# Altium schematic symbol library Part3411EN.SchLib: 650 symbols
Pins are listed as number, name and electrical type; pins without a type are passive.

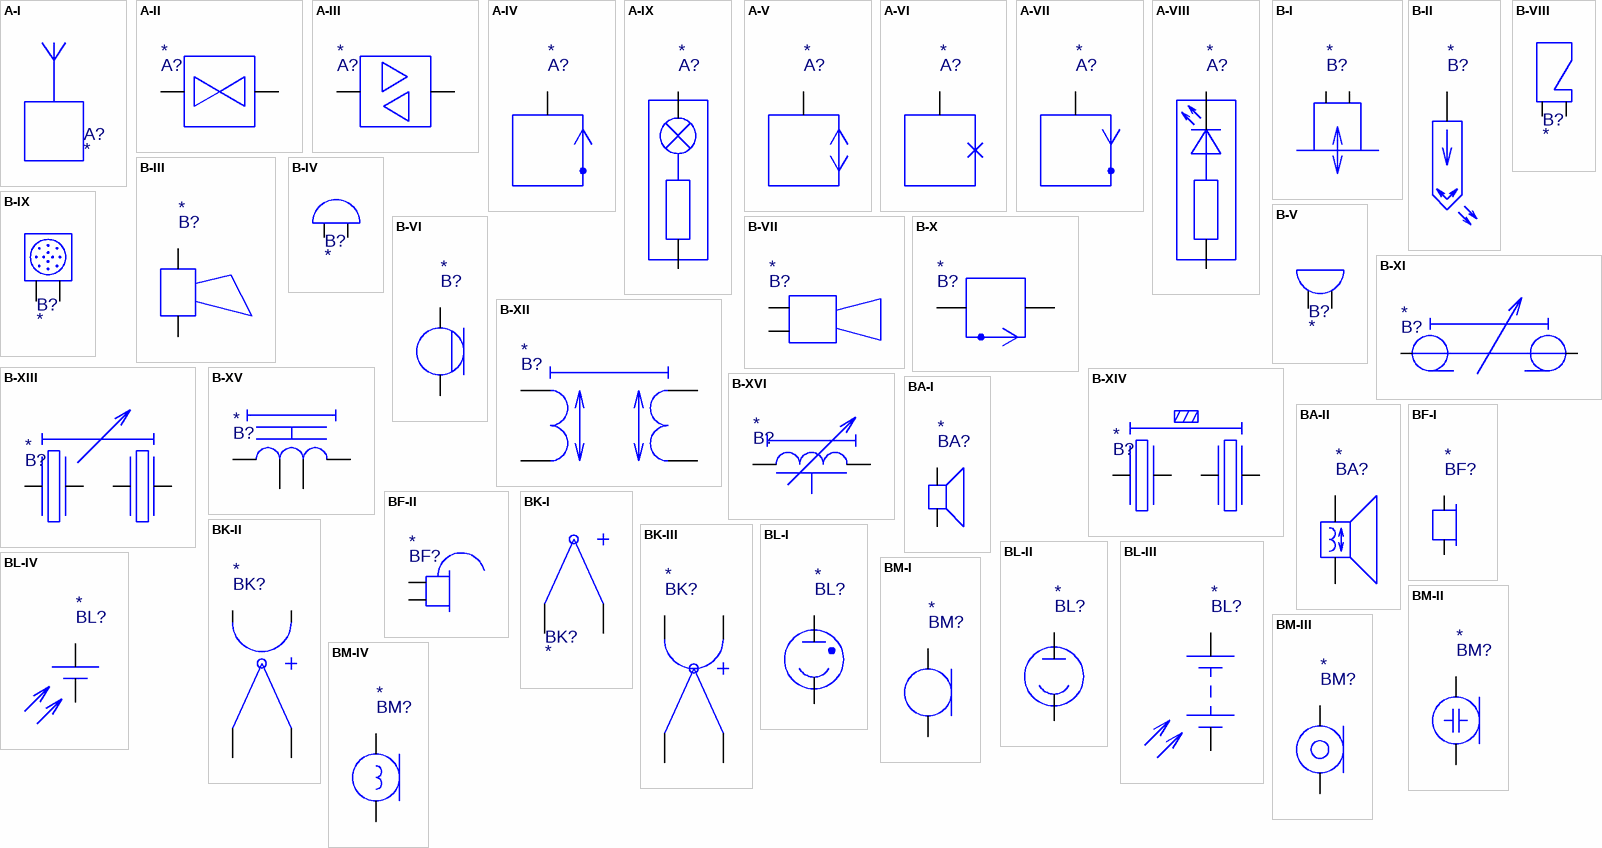
[diagram p0: symbols A-I to BM-IV]

## A-I
designator A?
pins: 1

## A-II
designator A?
pins: 1, 2

## A-III
designator A?
pins: 1, 2

## A-IV
designator A?
pins: 1

## A-IX
designator A?
pins: 1, 2

## A-V
designator A?
pins: 1

## A-VI
designator A?
pins: 1

## A-VII
designator A?
pins: 1

## A-VIII
designator A?
pins: 1, 2

## B-I
designator B?
pins: 1, 2

## B-II
designator B?
pins: 1

## B-III
designator B?
pins: 1, 2

## B-IV
designator B?
pins: 1, 2

## B-IX
designator B?
pins: 1, 2

## B-V
designator B?
pins: 1, 2

## B-VI
designator B?
pins: 1, 2

## B-VII
designator B?
pins: 1, 2

## B-VIII
designator B?
pins: 1, 2

## B-X
designator B?
pins: 1, 2

## B-XI
designator B?
pins: 1, 2

## B-XII
designator B?
pins: 1, 2, 3, 4

## B-XIII
designator B?
pins: 1, 2, 3, 4

## B-XIV
designator B?
pins: 1, 2, 3, 4

## B-XV
designator B?
pins: 1, 2, 3, 4

## B-XVI
designator B?
pins: 1, 2

## BA-I
designator BA?
pins: 1, 2

## BA-II
designator BA?
pins: 1, 2

## BF-I
designator BF?
pins: 1, 2

## BF-II
designator BF?
pins: 1, 2

## BK-I
designator BK?
pins: 1, 2

## BK-II
designator BK?
pins: 1, 2, 3, 4

## BK-III
designator BK?
pins: 1, 2, 3, 4

## BL-I
designator BL?
pins: 1, 2

## BL-II
designator BL?
pins: 1, 2

## BL-III
designator BL?
pins: 1, 2

## BL-IV
designator BL?
pins: 1, 2

## BM-I
designator BM?
pins: 1, 2

## BM-II
designator BM?
pins: 1, 2

## BM-III
designator BM?
pins: 1, 2

## BM-IV
designator BM?
pins: 1, 2

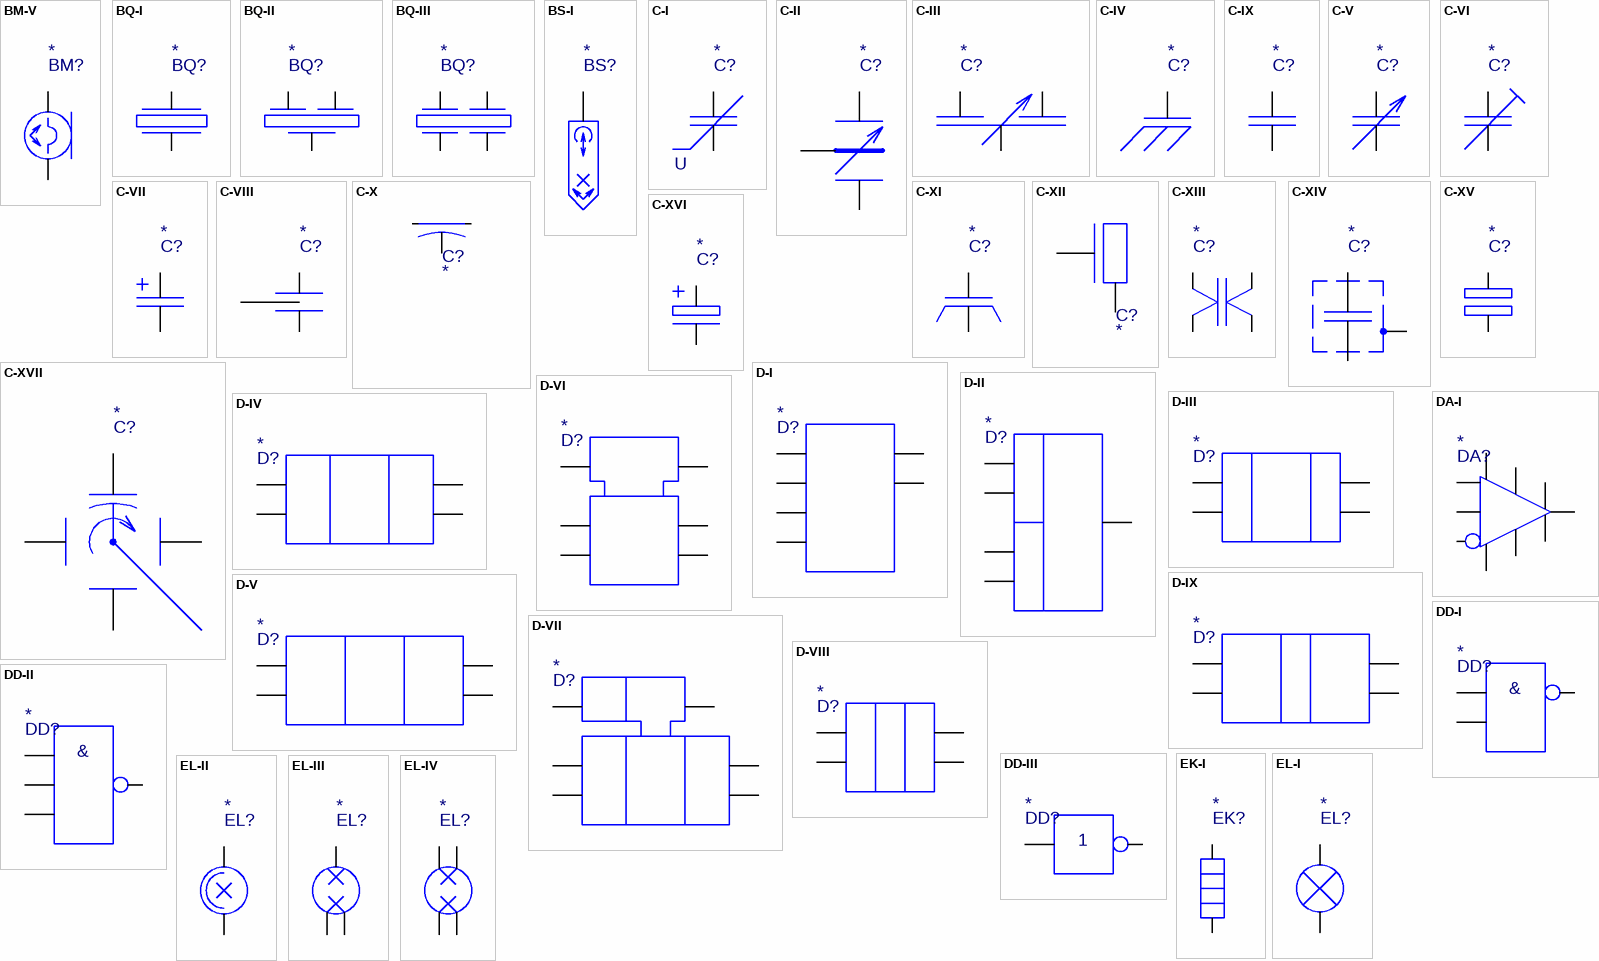
[diagram p1: symbols BM-V to EL-IV]

## BM-V
designator BM?
pins: 1, 2

## BQ-I
designator BQ?
pins: 1, 2

## BQ-II
designator BQ?
pins: 1, 2, 3

## BQ-III
designator BQ?
pins: 1, 2, 3, 4

## BS-I
designator BS?
pins: 1

## C-I
designator C?
pins: 1, 2
text: U

## C-II
designator C?
pins: 1, 2, 3

## C-III
designator C?
pins: 1, 2, 3

## C-IV
designator C?
pins: 1

## C-IX
designator C?
pins: 1, 2

## C-V
designator C?
pins: 1, 2

## C-VI
designator C?
pins: 1, 2

## C-VII
designator C?
pins: 1, 2

## C-VIII
designator C?
pins: 1, 2, 3

## C-X
designator C?
pins: 1, 2, 3

## C-XI
designator C?
pins: 1, 2

## C-XII
designator C?
pins: 1, 2

## C-XIII
designator C?
pins: 1, 2, 3, 4

## C-XIV
designator C?
pins: 1, 2, 3

## C-XV
designator C?
pins: 1, 2

## C-XVI
designator C?
pins: 1, 2

## C-XVII
designator C?
pins: 1, 2, 3, 4, 5

## D-I
designator D?
pins: 1, 2, 3, 4, 5, 6

## D-II
designator D?
pins: 1, 2, 3, 4, 5

## D-III
designator D?
pins: 1, 2, 3, 4

## D-IV
designator D?
pins: 1, 2, 3, 4

## D-IX
designator D?
pins: 1, 2, 3, 4

## D-V
designator D?
pins: 1, 2, 3, 4

## D-VI
designator D?
pins: 1, 2, 3, 4, 5, 6

## D-VII
designator D?
pins: 1, 2, 3, 4, 5, 6

## D-VIII
designator D?
pins: 1, 2, 3, 4

## DA-I
designator DA?
pins: 1, 2, 3, 4, 5, 6, 7, 8, 9, 10

## DD-I
designator DD?
pins: 1, 2, 3
text: &

## DD-II
designator DD?
pins: 1, 2, 3, 4
text: &

## DD-III
designator DD?
pins: 1, 2

## EK-I
designator EK?
pins: 1, 2

## EL-I
designator EL?
pins: 1, 2

## EL-II
designator EL?
pins: 1, 2

## EL-III
designator EL?
pins: 1, 2, 3

## EL-IV
designator EL?
pins: 1, 2, 3, 4

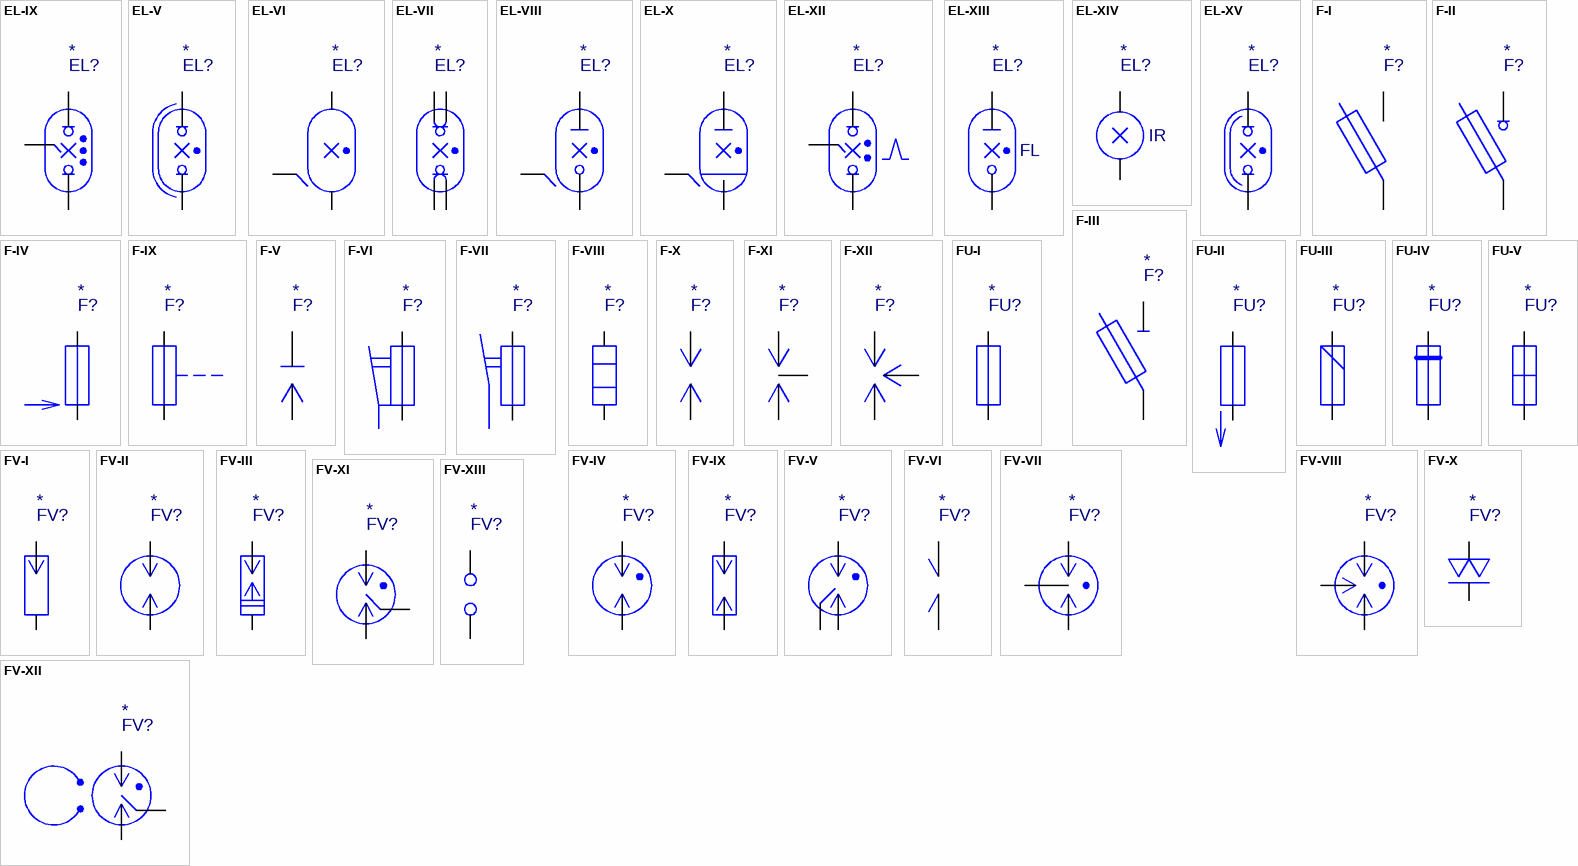
[diagram p2: symbols EL-IX to FV-XIII]

## EL-IX
designator EL?
pins: 1, 2, 3

## EL-V
designator EL?
pins: 1, 2

## EL-VI
designator EL?
pins: 1, 2, 3

## EL-VII
designator EL?
pins: 1, 2, 3, 4

## EL-VIII
designator EL?
pins: 1, 2, 3

## EL-X
designator EL?
pins: 1, 2, 3

## EL-XII
designator EL?
pins: 1, 2, 3

## EL-XIII
designator EL?
pins: 1, 2
text: FL

## EL-XIV
designator EL?
pins: 1, 2
text: IR

## EL-XV
designator EL?
pins: 1, 2

## F-I
designator F?
pins: 1, 2

## F-II
designator F?
pins: 1, 2

## F-III
designator F?
pins: 1, 2

## F-IV
designator F?
pins: 1, 2

## F-IX
designator F?
pins: 1, 2

## F-V
designator F?
pins: 1, 2

## F-VI
designator F?
pins: 1, 2

## F-VII
designator F?
pins: 1, 2

## F-VIII
designator F?
pins: 1, 2

## F-X
designator F?
pins: 1, 2

## F-XI
designator F?
pins: 1, 2, 3

## F-XII
designator F?
pins: 1, 2, 3

## FU-I
designator FU?
pins: 1, 2

## FU-II
designator FU?
pins: 1, 2

## FU-III
designator FU?
pins: 1, 2

## FU-IV
designator FU?
pins: 1, 2

## FU-V
designator FU?
pins: 1, 2

## FV-I
designator FV?
pins: 1, 2

## FV-II
designator FV?
pins: 1, 2

## FV-III
designator FV?
pins: 1, 2

## FV-IV
designator FV?
pins: 1, 2

## FV-IX
designator FV?
pins: 1, 2

## FV-V
designator FV?
pins: 1, 2, 3

## FV-VI
designator FV?
pins: 1, 2

## FV-VII
designator FV?
pins: 1, 2, 3

## FV-VIII
designator FV?
pins: 1, 2, 3

## FV-X
designator FV?
pins: 1, 2

## FV-XI
designator FV?
pins: 1, 2, 3

## FV-XII
designator FV?
pins: 1, 2, 3

## FV-XIII
designator FV?
pins: 1, 2

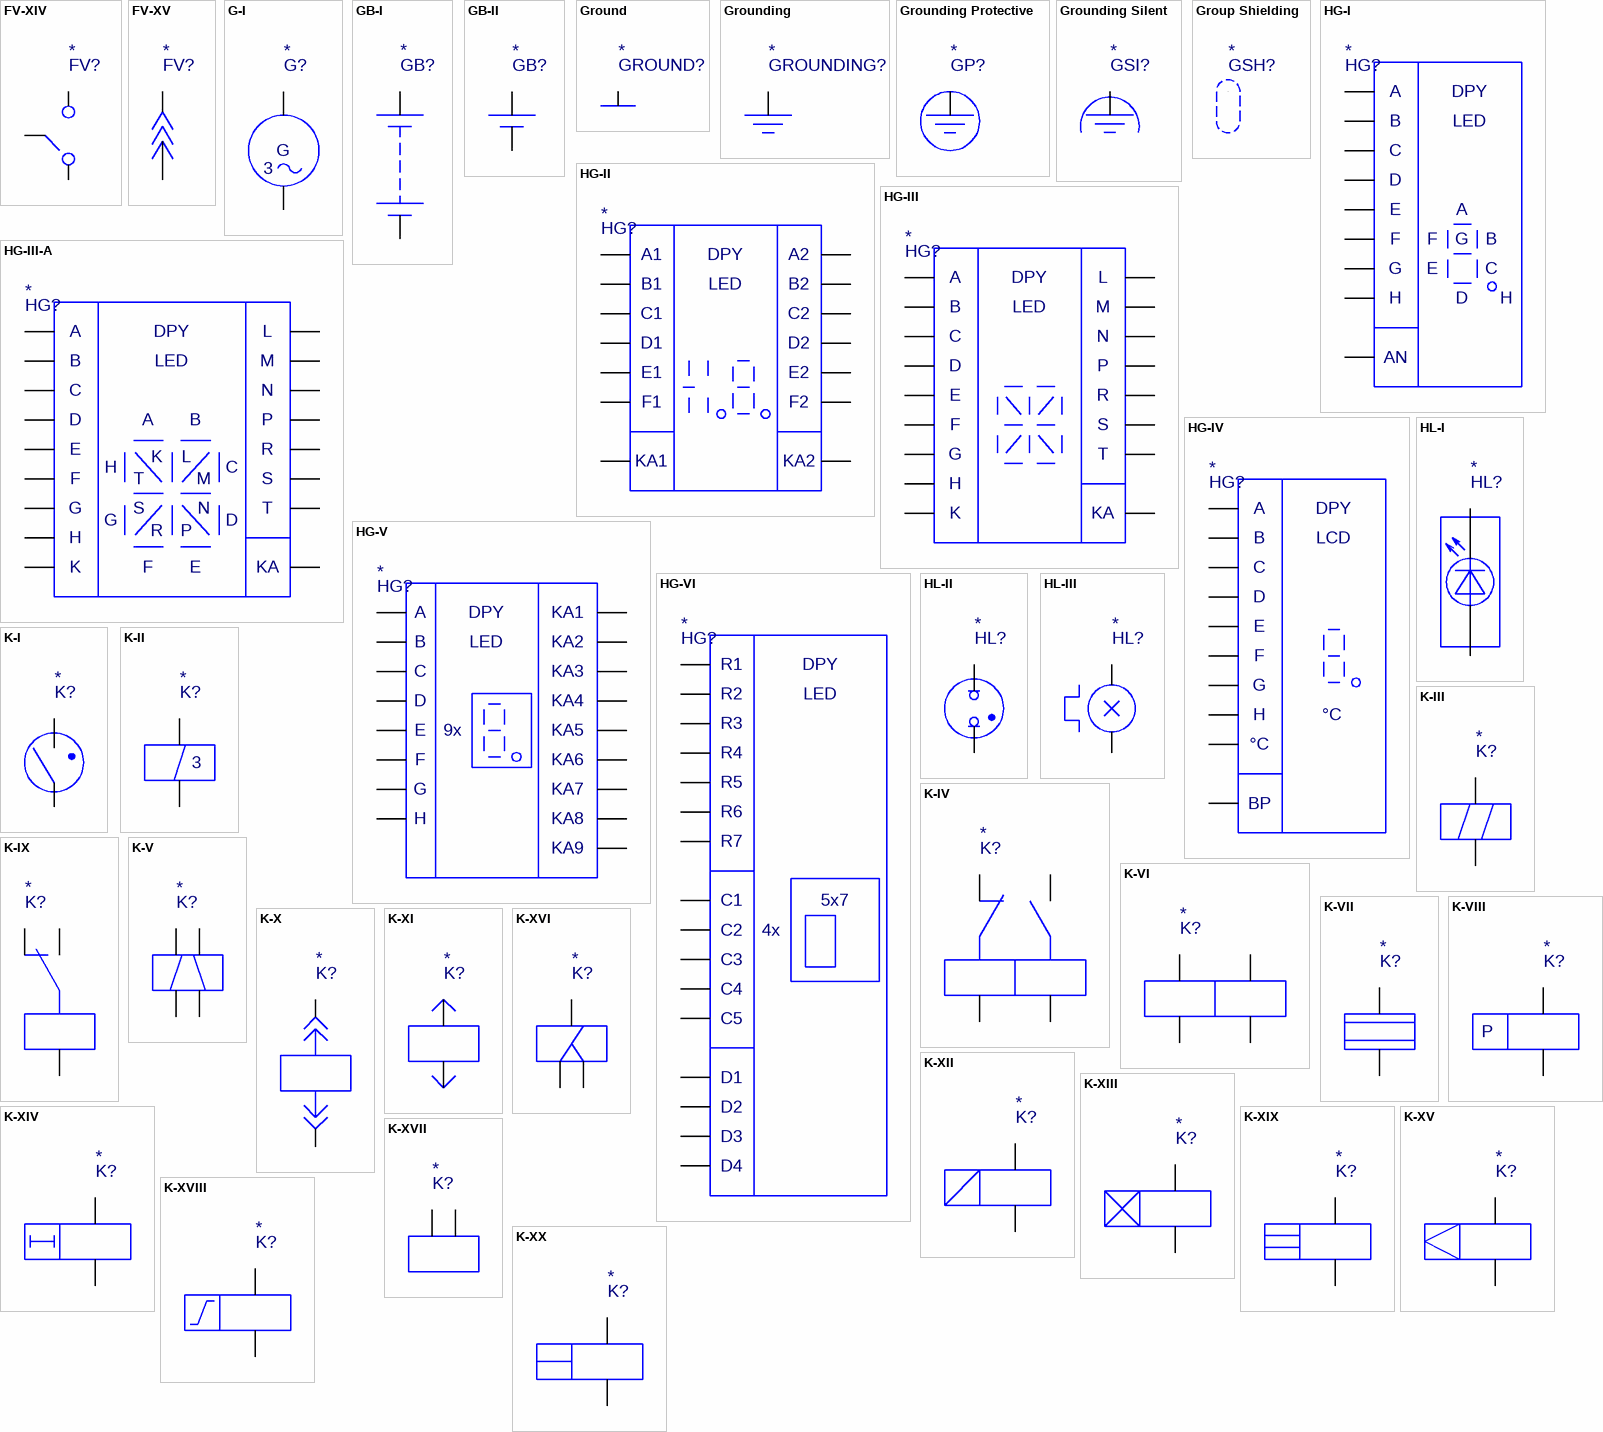
[diagram p3: symbols FV-XIV to K-XX]

## FV-XIV
designator FV?
pins: 1, 2, 3

## FV-XV
designator FV?
pins: 1, 2

## G-I
designator G?
pins: 1, 2
text: G; 3

## GB-I
designator GB?
pins: 1, 2

## GB-II
designator GB?
pins: 1, 2

## Ground
designator GROUND?
pins: 1

## Grounding
designator GROUNDING?
pins: 1

## Grounding Protective
designator GP?
pins: 1

## Grounding Silent
designator GSI?
pins: 1

## Group Shielding
designator GSH?
pins: 1

## HG-I
designator HG?
pins: 1, 2, 3, 4, 5, 6, 7, 8, 9
text: A; DPY; B; LED; C; D; E; F; G; H; AN

## HG-II
designator HG?
pins: 1, 2, 3, 4, 5, 6, 7, 8, 9, 10, 11, 12, 13, 14
text: A1; DPY; A2; B1; LED; B2; C1; C2; D1; D2; E1; E2; F1; F2; KA1; KA2

## HG-III
designator HG?
pins: 1, 2, 3, 4, 5, 6, 7, 8, 9, 10, 11, 12, 13, 14, 15, 16, 17
text: A; DPY; L; B; LED; M; C; N; D; P; E; R; F; S; G; T; H; K; KA

## HG-III-A
designator HG?
pins: 1, 2, 3, 4, 5, 6, 7, 8, 9, 10, 11, 12, 13, 14, 15, 16, 17
text: A; DPY; L; B; LED; M; C; N; D; P; E; R; K; H; F; T; S; G; KA

## HG-IV
designator HG?
pins: 1, 2, 3, 4, 5, 6, 7, 8, 9, 10
text: A; DPY; B; LCD; C; D; E; F; G; H; °C; BP

## HG-V
designator HG?
pins: 1, 2, 3, 4, 5, 6, 7, 8, 9, 10, 11, 12, 13, 14, 15, 16, 17
text: A; DPY; KA1; B; LED; KA2; C; KA3; D; KA4; E; 9x; KA5; F; KA6; G; KA7; H; KA8; KA9

## HG-VI
designator HG?
pins: 1, 2, 3, 4, 5, 6, 7, 8, 9, 10, 11, 12, 13, 14, 15, 16
text: R1; DPY; R2; LED; R3; R4; R5; R6; R7; C1; 5x7; C2; 4x; C3; C4; C5; D1; D2; D3; D4

## HL-I
designator HL?
pins: 1, 2

## HL-II
designator HL?
pins: 1, 2

## HL-III
designator HL?
pins: 1, 2

## K-I
designator K?
pins: 1, 2

## K-II
designator K?
pins: 1, 2
text: 3

## K-III
designator K?
pins: 1, 2

## K-IV
designator K?
pins: 1, 2, 3, 4

## K-IX
designator K?
pins: 1, 2, 3

## K-V
designator K?
pins: 1, 2, 3, 4

## K-VI
designator K?
pins: 1, 2, 3, 4

## K-VII
designator K?
pins: 1, 2

## K-VIII
designator K?
pins: 1, 2
text: P

## K-X
designator K?
pins: 1, 2

## K-XI
designator K?
pins: 1, 2

## K-XII
designator K?
pins: 1, 2

## K-XIII
designator K?
pins: 1, 2

## K-XIV
designator K?
pins: 1, 2

## K-XIX
designator K?
pins: 1, 2

## K-XV
designator K?
pins: 1, 2

## K-XVI
designator K?
pins: 1, 2, 3

## K-XVII
designator K?
pins: 1, 2

## K-XVIII
designator K?
pins: 1, 2

## K-XX
designator K?
pins: 1, 2

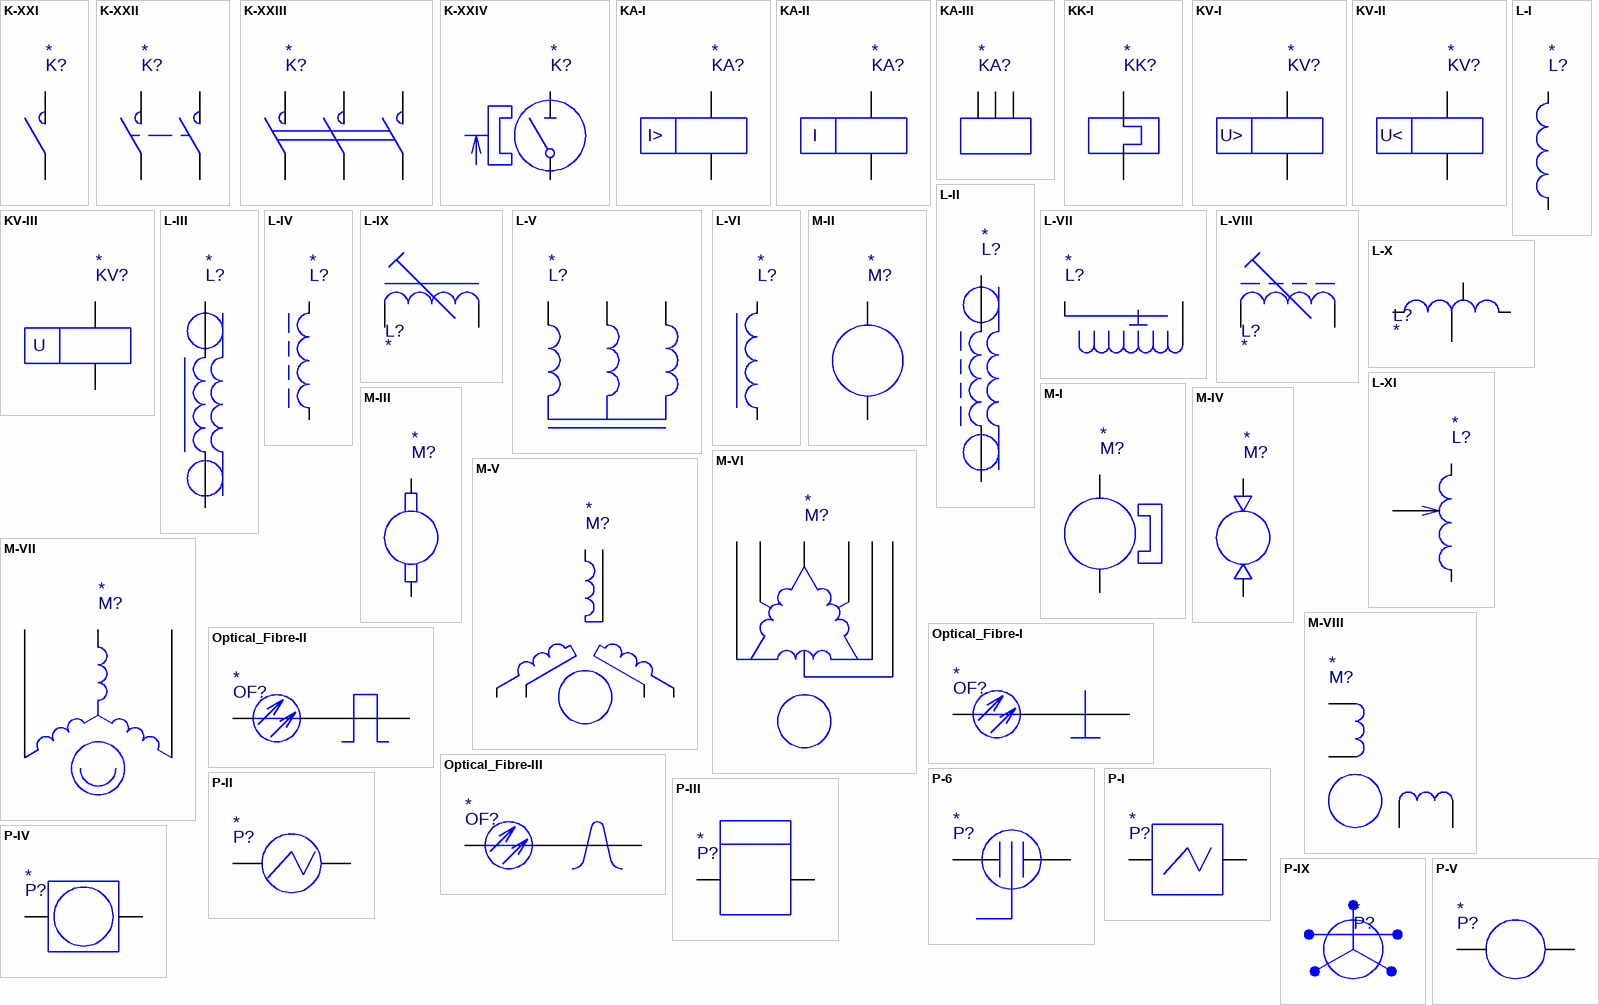
[diagram p4: symbols K-XXI to P-V]

## K-XXI
designator K?
pins: 1, 2

## K-XXII
designator K?
pins: 1, 2, 3, 4

## K-XXIII
designator K?
pins: 1, 2, 3, 4, 5, 6

## K-XXIV
designator K?
pins: 1, 2

## KA-I
designator KA?
pins: 1, 2
text: I>

## KA-II
designator KA?
pins: 1, 2
text: I

## KA-III
designator KA?
pins: 1, 2, 3

## KK-I
designator KK?
pins: 1, 2

## KV-I
designator KV?
pins: 1, 2
text: U>

## KV-II
designator KV?
pins: 1, 2
text: U<

## KV-III
designator KV?
pins: 1, 2
text: U

## L-I
designator L?
pins: 1, 2

## L-II
designator L?
pins: 1, 2

## L-III
designator L?
pins: 1, 2

## L-IV
designator L?
pins: 1, 2

## L-IX
designator L?
pins: 1, 2

## L-V
designator L?
pins: 1, 2, 3

## L-VI
designator L?
pins: 1, 2

## L-VII
designator L?
pins: 1, 2

## L-VIII
designator L?
pins: 1, 2

## L-X
designator L?
pins: 1, 2, 3, 4

## L-XI
designator L?
pins: 1, 2, 3

## M-I
designator M?
pins: 1, 2

## M-II
designator M?
pins: 1, 2

## M-III
designator M?
pins: 1, 2

## M-IV
designator M?
pins: 1, 2

## M-V
designator M?
pins: 1, 2, 3, 4, 5, 6

## M-VI
designator M?
pins: 1, 2, 3, 4, 5, 6

## M-VII
designator M?
pins: 1, 2, 3

## M-VIII
designator M?
pins: 1, 2, 3, 4

## Optical_Fibre-I
designator OF?
pins: 1, 2

## Optical_Fibre-II
designator OF?
pins: 1, 2

## Optical_Fibre-III
designator OF?
pins: 1, 2

## P-6
designator P?
pins: 1, 2

## P-I
designator P?
pins: 1, 2

## P-II
designator P?
pins: 1, 2

## P-III
designator P?
pins: 1, 2

## P-IV
designator P?
pins: 1, 2

## P-IX
designator P?
pins: 1

## P-V
designator P?
pins: 1, 2

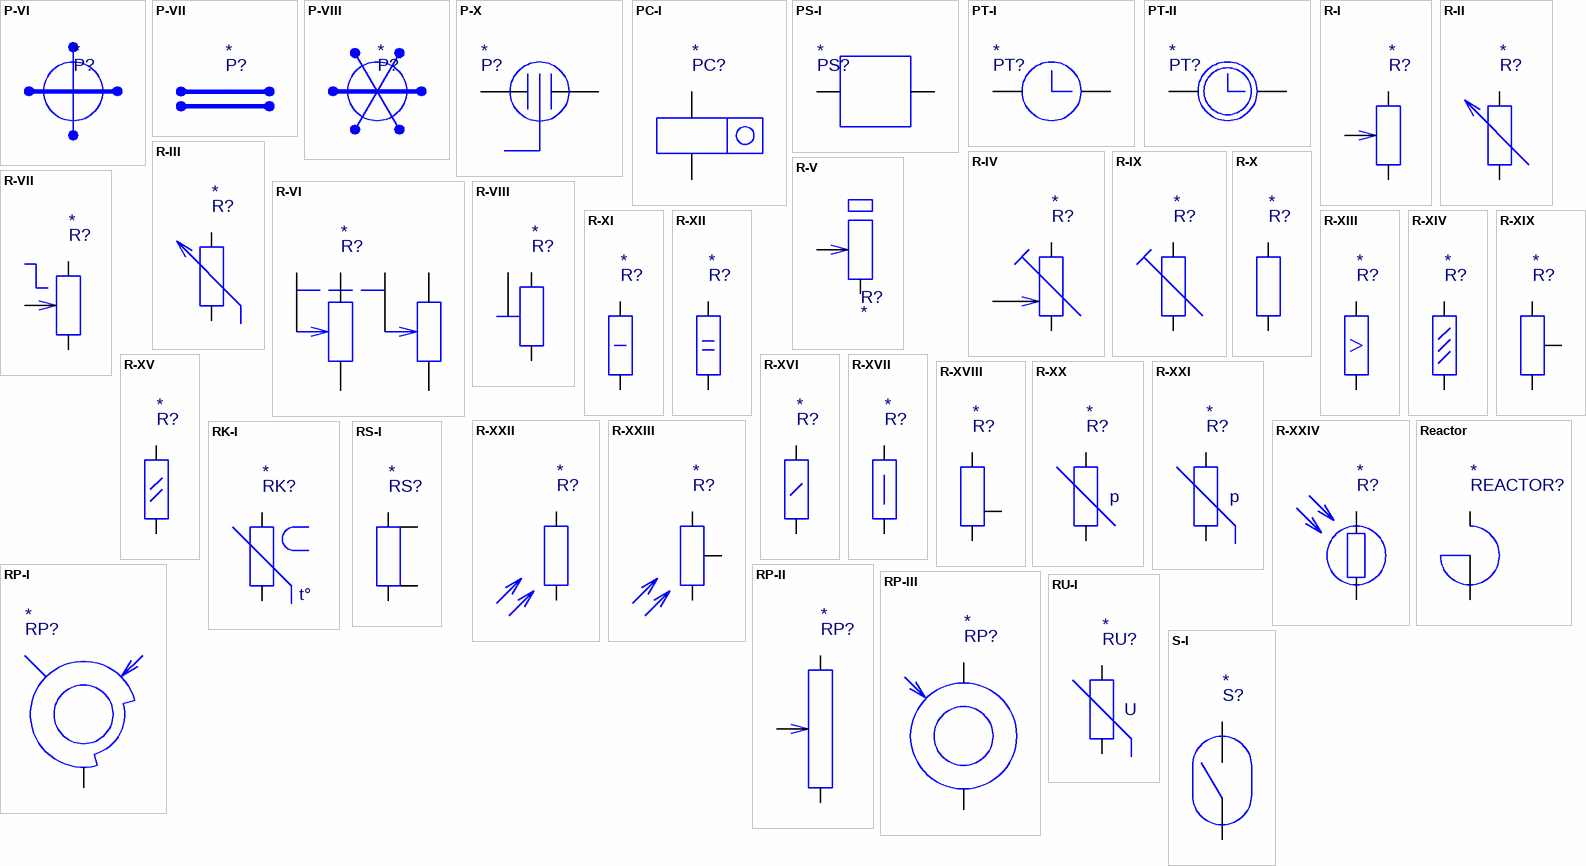
[diagram p5: symbols P-VI to S-I]

## P-VI
designator P?
pins: 1

## P-VII
designator P?
pins: 1

## P-VIII
designator P?
pins: 1

## P-X
designator P?
pins: 1, 2

## PC-I
designator PC?
pins: 1, 2

## PS-I
designator PS?
pins: 1, 2

## PT-I
designator PT?
pins: 1, 2

## PT-II
designator PT?
pins: 1, 2

## R-I
designator R?
pins: 1, 2, 3

## R-II
designator R?
pins: 1, 2

## R-III
designator R?
pins: 1, 2

## R-IV
designator R?
pins: 1, 2, 3

## R-IX
designator R?
pins: 1, 2

## R-V
designator R?
pins: 1, 2

## R-VI
designator R?
pins: 1, 2, 3, 4, 5, 6

## R-VII
designator R?
pins: 1, 2, 3

## R-VIII
designator R?
pins: 1, 2, 3

## R-X
designator R?
pins: 1, 2

## R-XI
designator R?
pins: 1, 2

## R-XII
designator R?
pins: 1, 2

## R-XIII
designator R?
pins: 1, 2

## R-XIV
designator R?
pins: 1, 2

## R-XIX
designator R?
pins: 1, 2, 3

## R-XV
designator R?
pins: 1, 2

## R-XVI
designator R?
pins: 1, 2

## R-XVII
designator R?
pins: 1, 2

## R-XVIII
designator R?
pins: 1, 2, 3

## R-XX
designator R?
pins: 1, 2
text: p

## R-XXI
designator R?
pins: 1, 2
text: p

## R-XXII
designator R?
pins: 1, 2

## R-XXIII
designator R?
pins: 1, 2, 3

## R-XXIV
designator R?
pins: 1, 2

## Reactor
designator REACTOR?
pins: 1, 2

## RK-I
designator RK?
pins: 1, 2
text: t°

## RP-I
designator RP?
pins: 1, 2, 3

## RP-II
designator RP?
pins: 1, 2, 3

## RP-III
designator RP?
pins: 1, 2, 3

## RS-I
designator RS?
pins: 1, 2, 3, 4

## RU-I
designator RU?
pins: 1, 2
text: U

## S-I
designator S?
pins: 1, 2

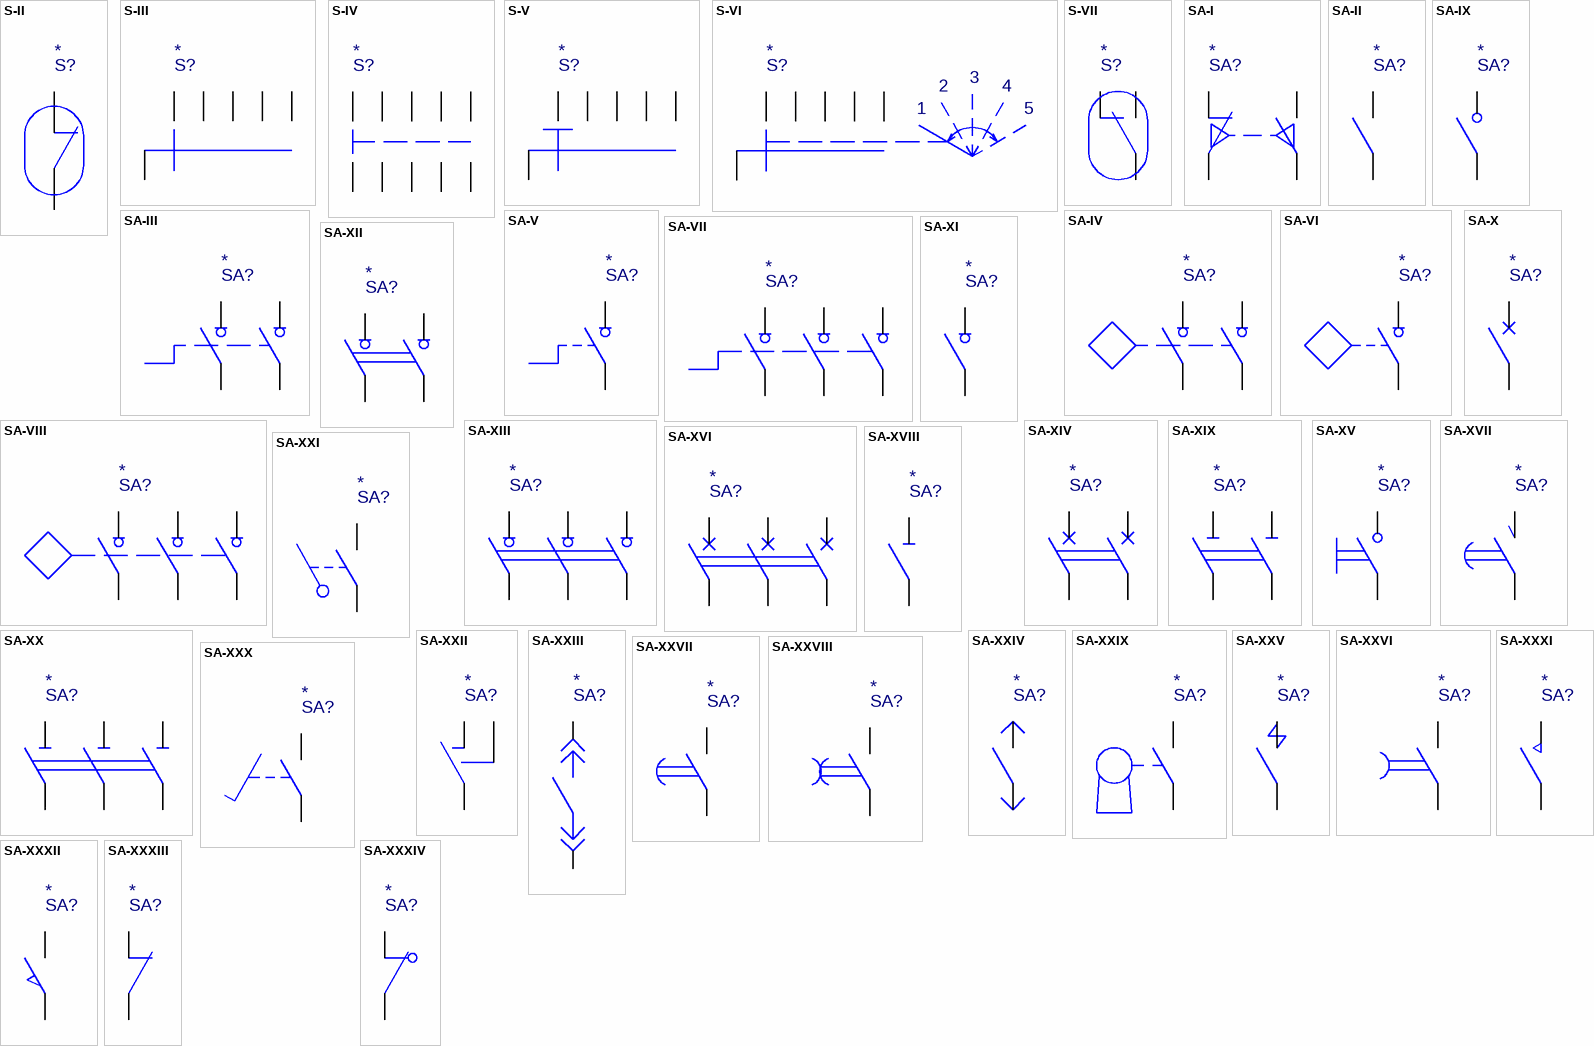
[diagram p6: symbols S-II to SA-XXXIV]

## S-II
designator S?
pins: 1, 2

## S-III
designator S?
pins: 1, 2, 3, 4, 5, 6

## S-IV
designator S?
pins: 1, 2, 3, 4, 5, 6, 7, 8, 9, 10

## S-V
designator S?
pins: 1, 2, 3, 4, 5, 6

## S-VI
designator S?
pins: 1, 2, 3, 4, 5, 6

## S-VII
designator S?
pins: 1, 2, 3

## SA-I
designator SA?
pins: 1, 2, 3, 4

## SA-II
designator SA?
pins: 1, 2

## SA-III
designator SA?
pins: 1, 2, 3, 4

## SA-IV
designator SA?
pins: 1, 2, 3, 4

## SA-IX
designator SA?
pins: 1, 2

## SA-V
designator SA?
pins: 1, 2

## SA-VI
designator SA?
pins: 1, 2

## SA-VII
designator SA?
pins: 1, 2, 3, 4, 5, 6

## SA-VIII
designator SA?
pins: 1, 2, 3, 4, 5, 6

## SA-X
designator SA?
pins: 1, 2

## SA-XI
designator SA?
pins: 1, 2

## SA-XII
designator SA?
pins: 1, 2, 3, 4

## SA-XIII
designator SA?
pins: 1, 2, 3, 4, 5, 6

## SA-XIV
designator SA?
pins: 1, 2, 3, 4

## SA-XIX
designator SA?
pins: 1, 2, 3, 4

## SA-XV
designator SA?
pins: 1, 2

## SA-XVI
designator SA?
pins: 1, 2, 3, 4, 5, 6

## SA-XVII
designator SA?
pins: 1, 2

## SA-XVIII
designator SA?
pins: 1, 2

## SA-XX
designator SA?
pins: 1, 2, 3, 4, 5, 6

## SA-XXI
designator SA?
pins: 1, 2

## SA-XXII
designator SA?
pins: 1, 2, 3

## SA-XXIII
designator SA?
pins: 1, 2

## SA-XXIV
designator SA?
pins: 1, 2

## SA-XXIX
designator SA?
pins: 1, 2

## SA-XXV
designator SA?
pins: 1, 2

## SA-XXVI
designator SA?
pins: 1, 2

## SA-XXVII
designator SA?
pins: 1, 2

## SA-XXVIII
designator SA?
pins: 1, 2

## SA-XXX
designator SA?
pins: 1, 2

## SA-XXXI
designator SA?
pins: 1, 2

## SA-XXXII
designator SA?
pins: 1, 2

## SA-XXXIII
designator SA?
pins: 1, 2

## SA-XXXIV
designator SA?
pins: 1, 2

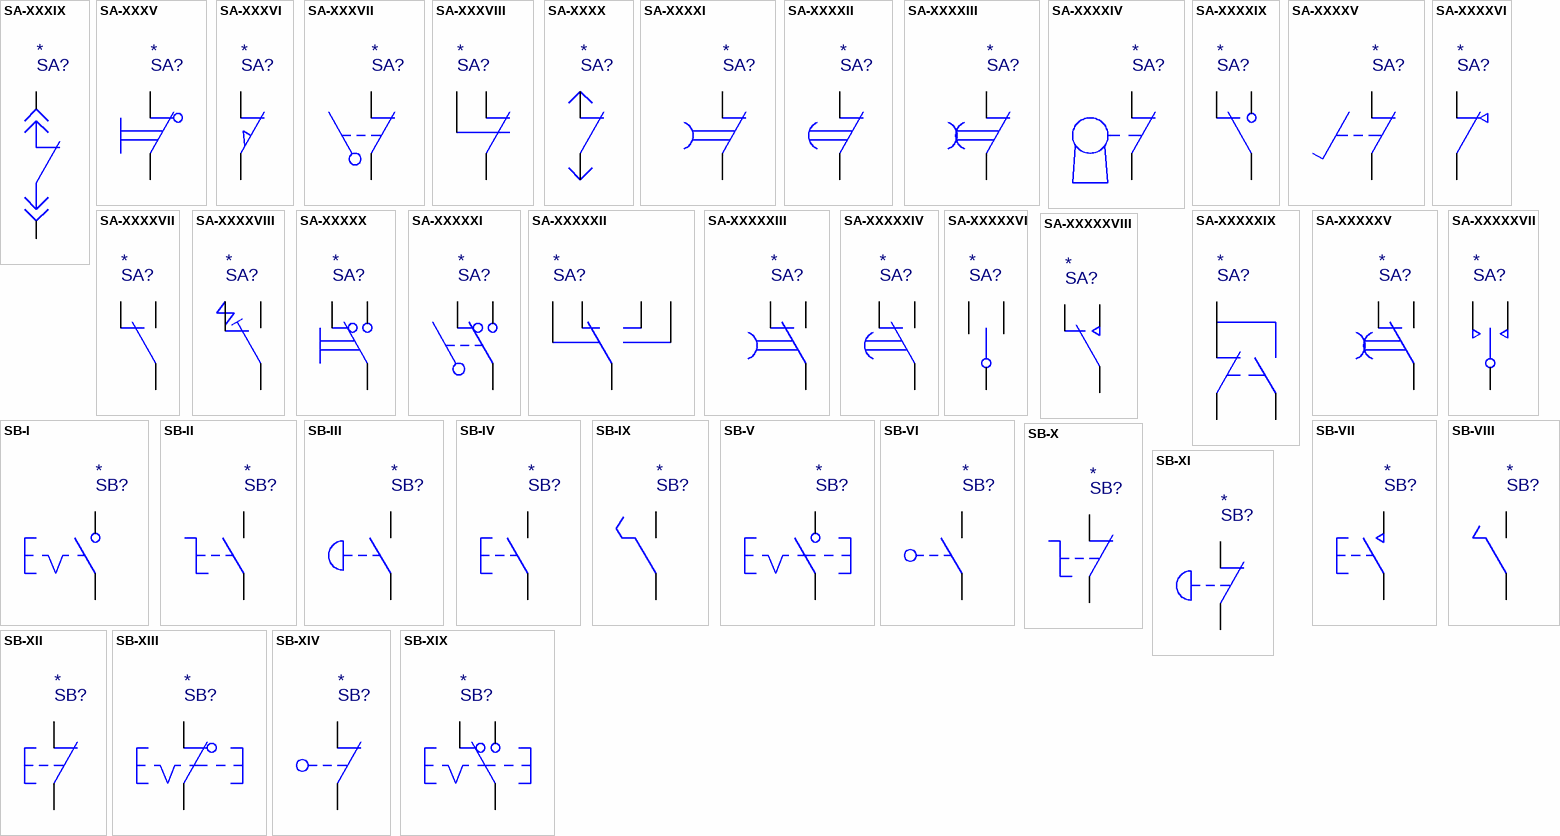
[diagram p7: symbols SA-XXXIX to SB-XIX]

## SA-XXXIX
designator SA?
pins: 1, 2

## SA-XXXV
designator SA?
pins: 1, 2

## SA-XXXVI
designator SA?
pins: 1, 2

## SA-XXXVII
designator SA?
pins: 1, 2

## SA-XXXVIII
designator SA?
pins: 1, 2, 3

## SA-XXXX
designator SA?
pins: 1, 2

## SA-XXXXI
designator SA?
pins: 1, 2

## SA-XXXXII
designator SA?
pins: 1, 2

## SA-XXXXIII
designator SA?
pins: 1, 2

## SA-XXXXIV
designator SA?
pins: 1, 2

## SA-XXXXIX
designator SA?
pins: 1, 2, 3

## SA-XXXXV
designator SA?
pins: 1, 2

## SA-XXXXVI
designator SA?
pins: 1, 2

## SA-XXXXVII
designator SA?
pins: 1, 2, 3

## SA-XXXXVIII
designator SA?
pins: 1, 2, 3

## SA-XXXXX
designator SA?
pins: 1, 2, 3

## SA-XXXXXI
designator SA?
pins: 1, 2, 3

## SA-XXXXXII
designator SA?
pins: 1, 2, 3, 4, 5

## SA-XXXXXIII
designator SA?
pins: 1, 2, 3

## SA-XXXXXIV
designator SA?
pins: 1, 2, 3

## SA-XXXXXIX
designator SA?
pins: 1, 2, 3

## SA-XXXXXV
designator SA?
pins: 1, 2, 3

## SA-XXXXXVI
designator SA?
pins: 1, 2, 3

## SA-XXXXXVII
designator SA?
pins: 1, 2, 3

## SA-XXXXXVIII
designator SA?
pins: 1, 2, 3

## SB-I
designator SB?
pins: 1, 2

## SB-II
designator SB?
pins: 1, 2

## SB-III
designator SB?
pins: 1, 2

## SB-IV
designator SB?
pins: 1, 2

## SB-IX
designator SB?
pins: 1, 2

## SB-V
designator SB?
pins: 1, 2

## SB-VI
designator SB?
pins: 1, 2

## SB-VII
designator SB?
pins: 1, 2

## SB-VIII
designator SB?
pins: 1, 2

## SB-X
designator SB?
pins: 1, 2

## SB-XI
designator SB?
pins: 1, 2

## SB-XII
designator SB?
pins: 1, 2

## SB-XIII
designator SB?
pins: 1, 2

## SB-XIV
designator SB?
pins: 1, 2

## SB-XIX
designator SB?
pins: 1, 2, 3

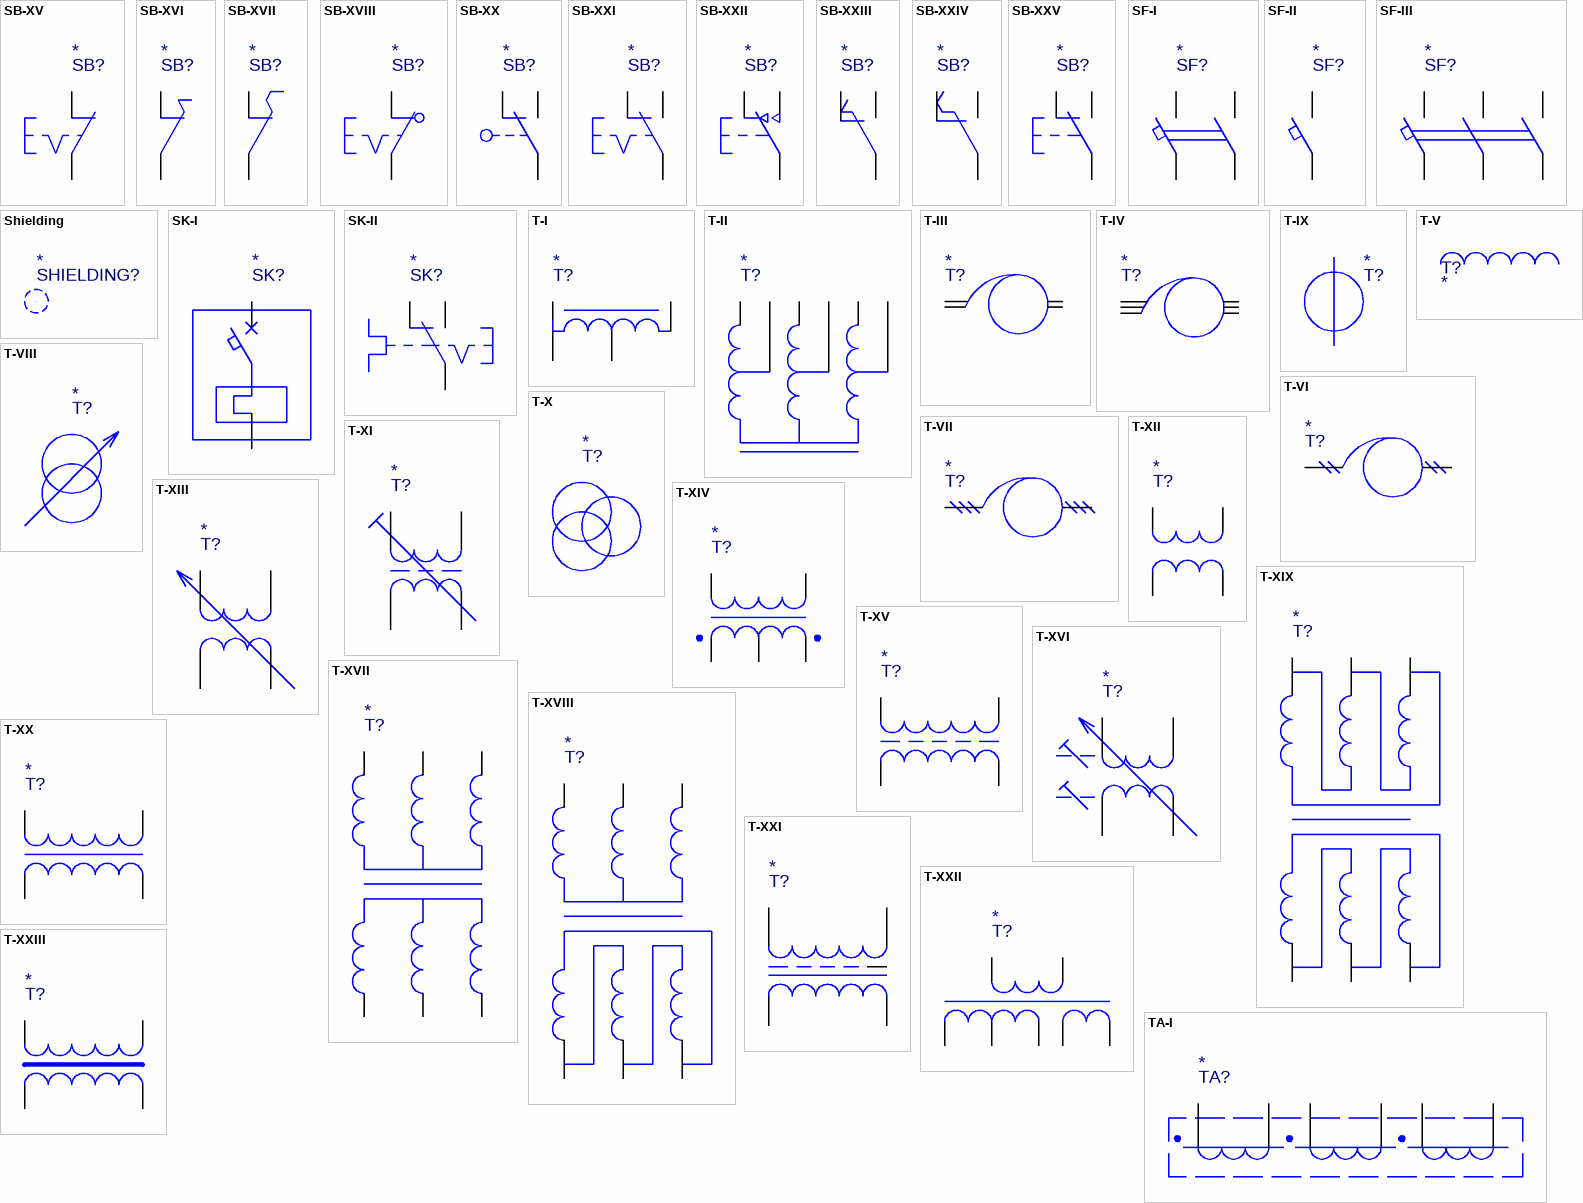
[diagram p8: symbols SB-XV to TA-I]

## SB-XV
designator SB?
pins: 1, 2

## SB-XVI
designator SB?
pins: 1, 2

## SB-XVII
designator SB?
pins: 1, 2

## SB-XVIII
designator SB?
pins: 1, 2

## SB-XX
designator SB?
pins: 1, 2, 3

## SB-XXI
designator SB?
pins: 1, 2, 3

## SB-XXII
designator SB?
pins: 1, 2, 3

## SB-XXIII
designator SB?
pins: 1, 2, 3

## SB-XXIV
designator SB?
pins: 1, 2, 3

## SB-XXV
designator SB?
pins: 1, 2, 3

## SF-I
designator SF?
pins: 1, 2, 3, 4

## SF-II
designator SF?
pins: 1, 2

## SF-III
designator SF?
pins: 1, 2, 3, 4, 5, 6

## Shielding
designator SHIELDING?
pins: 1

## SK-I
designator SK?
pins: 1, 2

## SK-II
designator SK?
pins: 1, 2, 3

## T-I
designator T?
pins: 1, 2, 3, 4

## T-II
designator T?
pins: 1, 2, 3, 4, 5, 6

## T-III
designator T?
pins: 1, 2, 3, 4

## T-IV
designator T?
pins: 1, 2, 3, 4, 5, 6

## T-IX
designator T?
pins: 1

## T-V
designator T?
pins: 1, 2

## T-VI
designator T?
pins: 1, 2

## T-VII
designator T?
pins: 1, 2

## T-VIII
designator T?
pins: 1, 2

## T-X
designator T?
pins: 1, 2, 3

## T-XI
designator T?
pins: 1, 2, 3, 4

## T-XII
designator T?
pins: 1, 2, 3, 4

## T-XIII
designator T?
pins: 1, 2, 3, 4

## T-XIV
designator T?
pins: 1, 2, 3, 4, 5

## T-XIX
designator T?
pins: 1, 2, 3, 4, 5, 6

## T-XV
designator T?
pins: 1, 2, 3, 4

## T-XVI
designator T?
pins: 1, 2, 3, 4

## T-XVII
designator T?
pins: 1, 2, 3, 4, 5, 6

## T-XVIII
designator T?
pins: 1, 2, 3, 4, 5, 6

## T-XX
designator T?
pins: 1, 2, 3, 4

## T-XXI
designator T?
pins: 1, 2, 3, 4, 5

## T-XXII
designator T?
pins: 1, 2, 3, 4, 5, 6, 7

## T-XXIII
designator T?
pins: 1, 2, 3, 4

## TA-I
designator TA?
pins: 1, 2, 3, 4, 5, 6

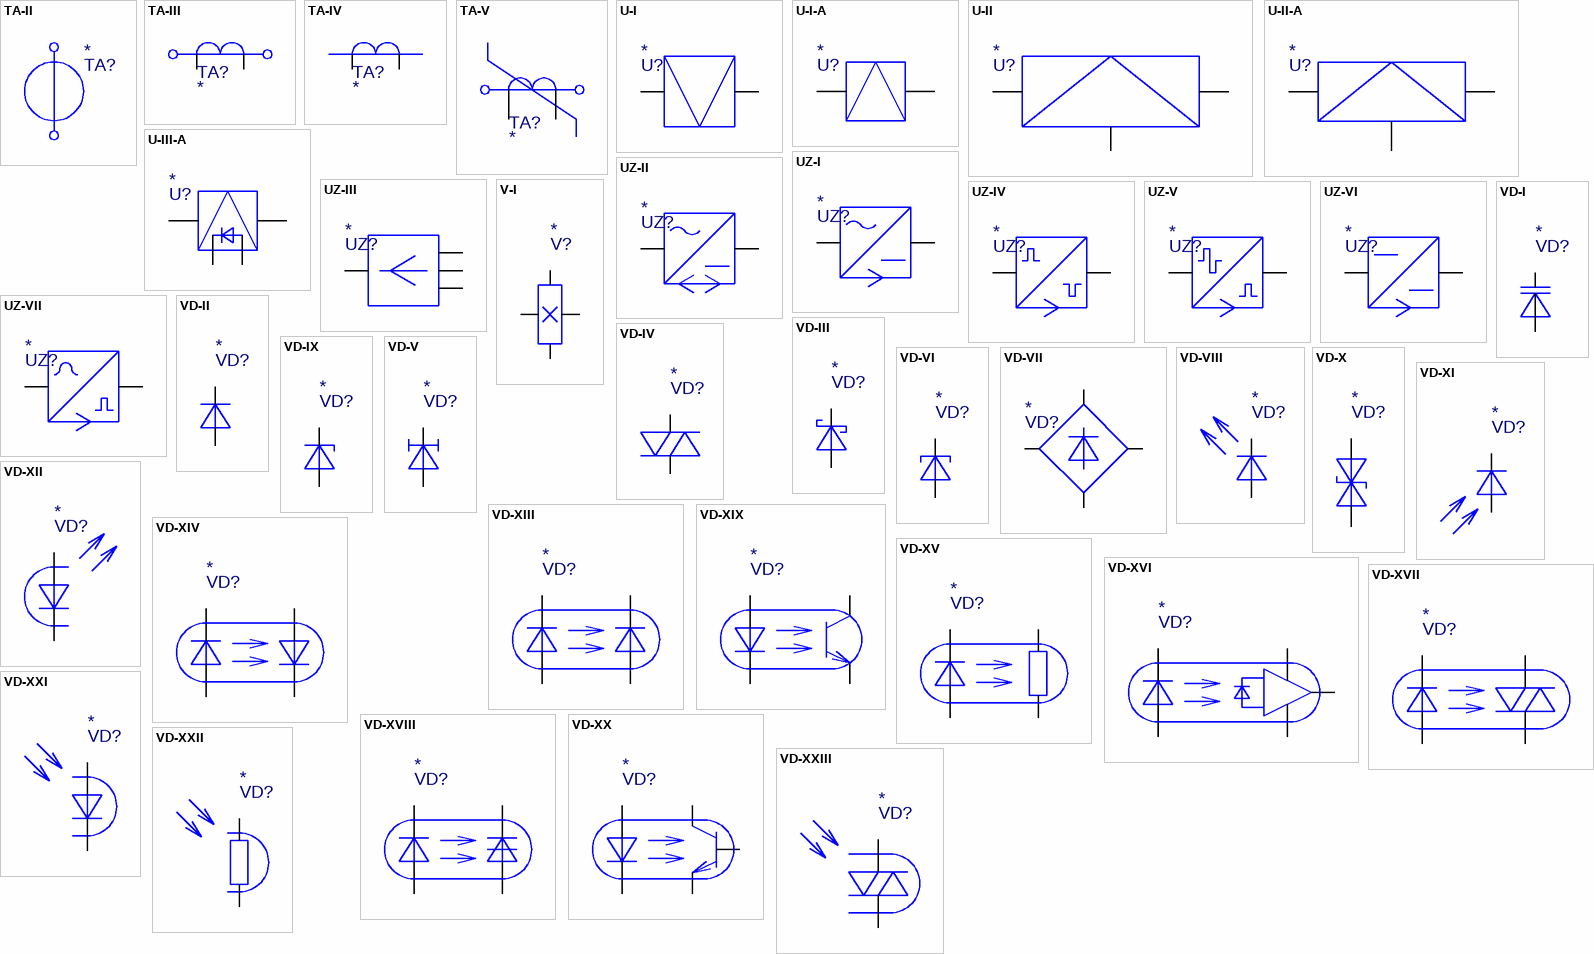
[diagram p9: symbols TA-II to VD-XXIII]

## TA-II
designator TA?
pins: 1

## TA-III
designator TA?
pins: 1, 2

## TA-IV
designator TA?
pins: 1, 2

## TA-V
designator TA?
pins: 1, 2

## U-I
designator U?
pins: 1, 2

## U-I-A
designator U?
pins: 1, 2

## U-II
designator U?
pins: 1, 2, 3

## U-II-A
designator U?
pins: 1, 2, 3

## U-III-A
designator U?
pins: 1, 2, 3, 4

## UZ-I
designator UZ?
pins: 1, 2

## UZ-II
designator UZ?
pins: 1, 2

## UZ-III
designator UZ?
pins: 1, 2, 3, 4

## UZ-IV
designator UZ?
pins: 1, 2

## UZ-V
designator UZ?
pins: 1, 2

## UZ-VI
designator UZ?
pins: 1, 2

## UZ-VII
designator UZ?
pins: 1, 2

## V-I
designator V?
pins: 1, 2, 3, 4

## VD-I
designator VD?
pins: 1, 2

## VD-II
designator VD?
pins: 1, 2

## VD-III
designator VD?
pins: 1, 2

## VD-IV
designator VD?
pins: 1, 2

## VD-IX
designator VD?
pins: 1, 2

## VD-V
designator VD?
pins: 1, 2

## VD-VI
designator VD?
pins: 1, 2

## VD-VII
designator VD?
pins: 1, 2, 3, 4

## VD-VIII
designator VD?
pins: 1, 2

## VD-X
designator VD?
pins: 1, 2

## VD-XI
designator VD?
pins: 1, 2

## VD-XII
designator VD?
pins: 1, 2

## VD-XIII
designator VD?
pins: 1, 2, 3, 4

## VD-XIV
designator VD?
pins: 1, 2, 3, 4

## VD-XIX
designator VD?
pins: 1, 2, 3, 4

## VD-XV
designator VD?
pins: 1, 2, 3, 4

## VD-XVI
designator VD?
pins: 1, 2, 3, 4, 5

## VD-XVII
designator VD?
pins: 1, 2, 3, 4

## VD-XVIII
designator VD?
pins: 1, 2, 3, 4

## VD-XX
designator VD?
pins: 1, 2, 3, 4, 5

## VD-XXI
designator VD?
pins: 1, 2

## VD-XXII
designator VD?
pins: 1, 2

## VD-XXIII
designator VD?
pins: 1, 2

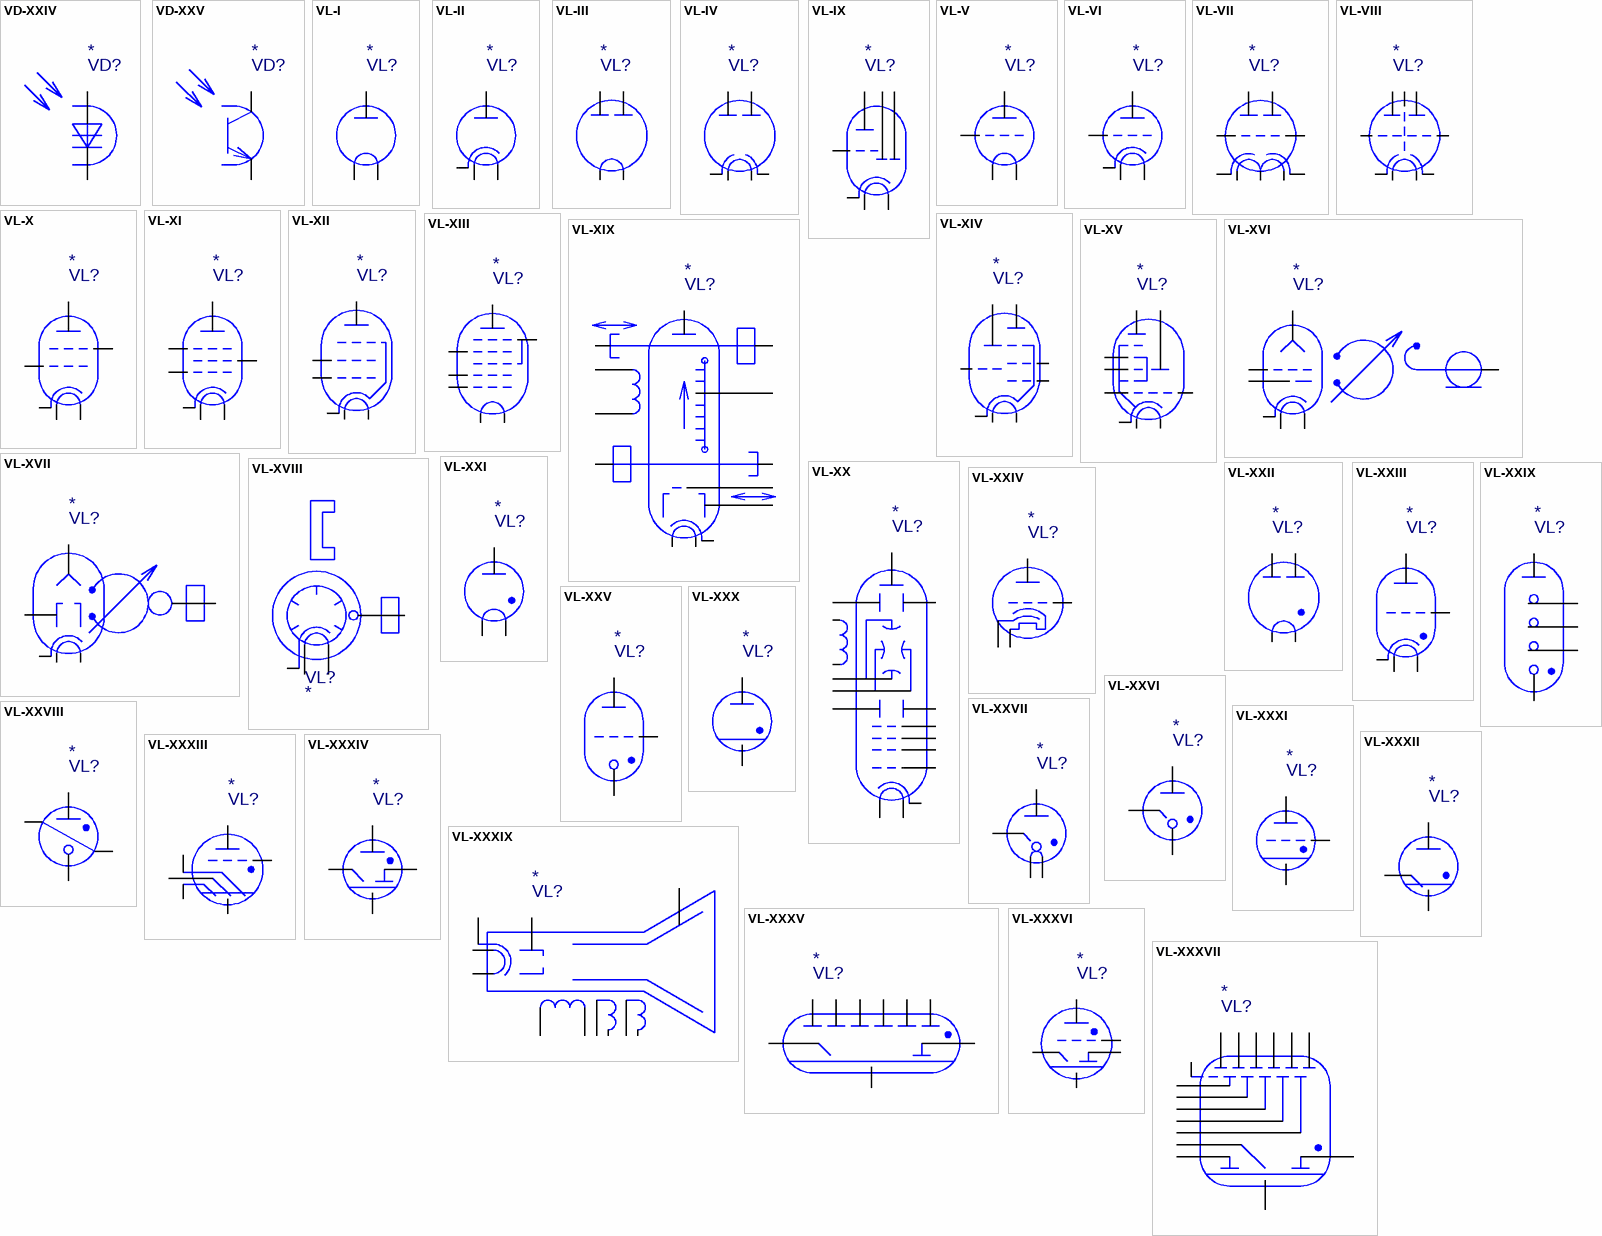
[diagram p10: symbols VD-XXIV to VL-XXXVII]

## VD-XXIV
designator VD?
pins: 1, 2

## VD-XXV
designator VD?
pins: 1, 2

## VL-I
designator VL?
pins: 1, 2, 3

## VL-II
designator VL?
pins: 1, 2, 3, 4

## VL-III
designator VL?
pins: 1, 2, 3, 4

## VL-IV
designator VL?
pins: 1, 2, 3, 4, 5, 6

## VL-IX
designator VL?
pins: 1, 2, 3, 4, 5, 6, 7

## VL-V
designator VL?
pins: 1, 2, 3, 4

## VL-VI
designator VL?
pins: 1, 2, 3, 4, 5

## VL-VII
designator VL?
pins: 1, 2, 3, 4, 5, 6, 7, 8, 9

## VL-VIII
designator VL?
pins: 1, 2, 3, 4, 5, 6, 7, 8, 9

## VL-X
designator VL?
pins: 1, 2, 3, 4, 5, 6

## VL-XI
designator VL?
pins: 1, 2, 3, 4, 5, 6, 7

## VL-XII
designator VL?
pins: 1, 2, 3, 4, 5, 6

## VL-XIII
designator VL?
pins: 1, 2, 3, 4, 5, 6, 7

## VL-XIV
designator VL?
pins: 1, 2, 3, 4, 5, 6, 7, 8

## VL-XIX
designator VL?
pins: 1, 2, 3, 4, 5, 6, 7, 8, 9, 10, 11, 12, 13

## VL-XV
designator VL?
pins: 1, 2, 3, 4, 5, 6, 7, 8, 9

## VL-XVI
designator VL?
pins: 1, 2, 3, 4, 5, 6, 7

## VL-XVII
designator VL?
pins: 1, 2, 3, 4, 5, 6

## VL-XVIII
designator VL?
pins: 1, 2, 3, 4

## VL-XX
designator VL?
pins: 1, 2, 3, 4, 5, 6, 7, 8, 9, 10, 11, 12, 13, 14, 15, 16

## VL-XXI
designator VL?
pins: 1, 2, 3

## VL-XXII
designator VL?
pins: 1, 2, 3, 4

## VL-XXIII
designator VL?
pins: 1, 2, 3, 4, 5

## VL-XXIV
designator VL?
pins: 1, 2, 3, 4

## VL-XXIX
designator VL?
pins: 1, 2, 3, 4, 5

## VL-XXV
designator VL?
pins: 1, 2, 3

## VL-XXVI
designator VL?
pins: 1, 2, 3

## VL-XXVII
designator VL?
pins: 1, 2, 3, 4

## VL-XXVIII
designator VL?
pins: 1, 2, 3, 4

## VL-XXX
designator VL?
pins: 1, 2

## VL-XXXI
designator VL?
pins: 1, 2, 3

## VL-XXXII
designator VL?
pins: 1, 2, 3

## VL-XXXIII
designator VL?
pins: 1, 2, 3, 4, 5, 6

## VL-XXXIV
designator VL?
pins: 1, 2, 3, 4

## VL-XXXIX
designator VL?
pins: 1, 2, 3, 4, 5, 6, 7, 8, 9, 10, 11

## VL-XXXV
designator VL?
pins: 1, 2, 3, 4, 5, 6, 7, 8, 9

## VL-XXXVI
designator VL?
pins: 1, 2, 3, 4, 5

## VL-XXXVII
designator VL?
pins: 1, 2, 3, 4, 5, 6, 7, 8, 9, 10, 11, 12, 13, 14, 15, 16

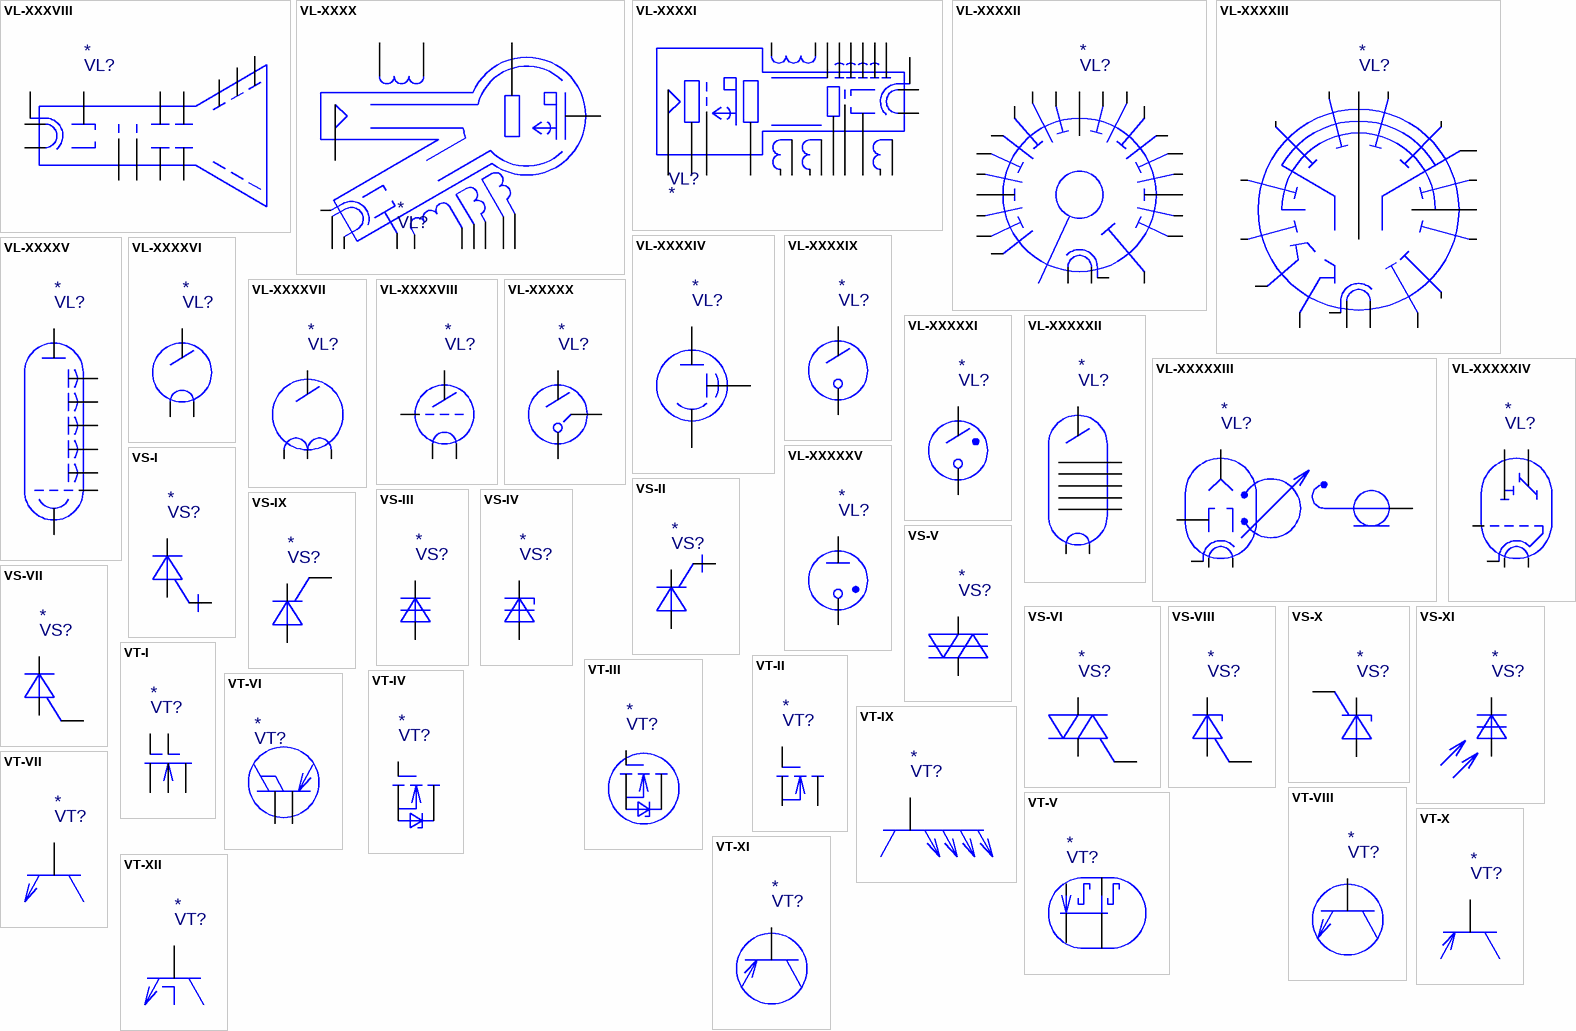
[diagram p11: symbols VL-XXXVIII to VT-XII]

## VL-XXXVIII
designator VL?
pins: 1, 2, 3, 4, 5, 6, 7, 8, 9, 10, 11, 12, 13

## VL-XXXX
designator VL?
pins: 1, 2, 3, 4, 5, 6, 7, 8, 9, 10, 11, 12, 13, 14, 15

## VL-XXXXI
designator VL?
pins: 1, 2, 3, 4, 5, 6, 7, 8, 9, 10, 11, 12, 13, 14, 15, 16, 17, 18, 19, 20, 21, 22, 23, 24

## VL-XXXXII
designator VL?
pins: 1, 2, 3, 4, 5, 6, 7, 8, 9, 10, 11, 12, 13, 14, 15, 16, 17, 18, 19, 20, 21, 22, 23, 24, 25

## VL-XXXXIII
designator VL?
pins: 1, 2, 3, 4, 5, 6, 7, 8, 9, 10, 11, 12, 13, 14, 15, 16, 17, 18

## VL-XXXXIV
designator VL?
pins: 1, 2, 3

## VL-XXXXIX
designator VL?
pins: 1, 2

## VL-XXXXV
designator VL?
pins: 1, 2, 3, 4, 5, 6, 7, 8

## VL-XXXXVI
designator VL?
pins: 1, 2, 3

## VL-XXXXVII
designator VL?
pins: 1, 2, 3, 4

## VL-XXXXVIII
designator VL?
pins: 1, 2, 3, 4

## VL-XXXXX
designator VL?
pins: 1, 2, 3

## VL-XXXXXI
designator VL?
pins: 1, 2

## VL-XXXXXII
designator VL?
pins: 1, 2, 3, 4, 5, 6, 7, 8

## VL-XXXXXIII
designator VL?
pins: 1, 2, 3, 4, 5, 6

## VL-XXXXXIV
designator VL?
pins: 1, 2, 3, 4, 5, 6

## VL-XXXXXV
designator VL?
pins: 1, 2

## VS-I
designator VS?
pins: 1, 2, 3

## VS-II
designator VS?
pins: 1, 2, 3

## VS-III
designator VS?
pins: 1, 2

## VS-IV
designator VS?
pins: 1, 2

## VS-IX
designator VS?
pins: 1, 2, 3

## VS-V
designator VS?
pins: 1, 2

## VS-VI
designator VS?
pins: 1, 2, 3

## VS-VII
designator VS?
pins: 1, 2, 3

## VS-VIII
designator VS?
pins: 1, 2, 3

## VS-X
designator VS?
pins: 1, 2, 3

## VS-XI
designator VS?
pins: 1, 2

## VT-I
designator VT?
pins: 1, 2, 3, 4, 5

## VT-II
designator VT?
pins: 1, 2, 3

## VT-III
designator VT?
pins: 1, 2, 3

## VT-IV
designator VT?
pins: 1, 2, 3

## VT-IX
designator VT?
pins: 1, 2, 3, 4, 5, 6

## VT-V
designator VT?
pins: 1, 2, 3, 4

## VT-VI
designator VT?
pins: 1, 2, 3, 4

## VT-VII
designator VT?
pins: 1, 2, 3

## VT-VIII
designator VT?
pins: 1, 2, 3

## VT-X
designator VT?
pins: 1, 2, 3

## VT-XI
designator VT?
pins: 1, 2, 3

## VT-XII
designator VT?
pins: 1, 2, 3

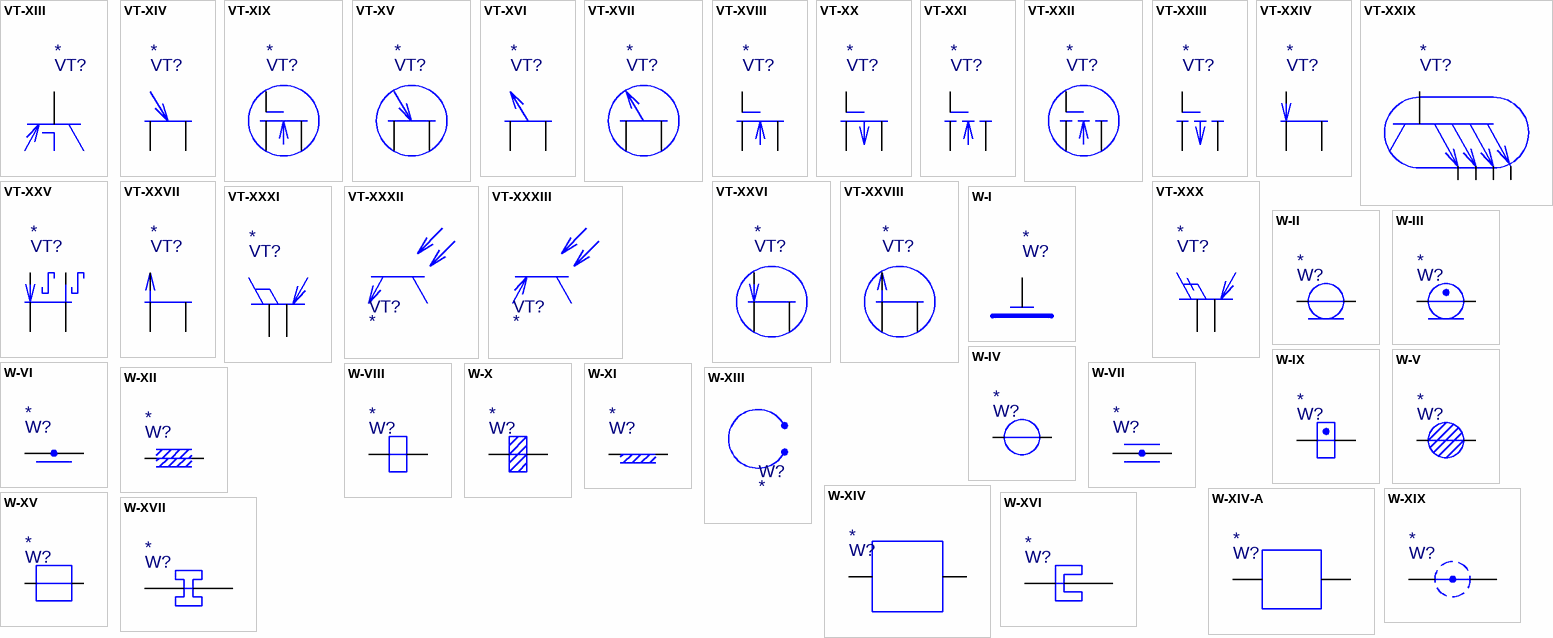
[diagram p12: symbols VT-XIII to W-XVII]

## VT-XIII
designator VT?
pins: 1, 2, 3

## VT-XIV
designator VT?
pins: 1, 2, 3

## VT-XIX
designator VT?
pins: 1, 2, 3

## VT-XV
designator VT?
pins: 1, 2, 3

## VT-XVI
designator VT?
pins: 1, 2, 3

## VT-XVII
designator VT?
pins: 1, 2, 3

## VT-XVIII
designator VT?
pins: 1, 2, 3

## VT-XX
designator VT?
pins: 1, 2, 3

## VT-XXI
designator VT?
pins: 1, 2, 3

## VT-XXII
designator VT?
pins: 1, 2, 3

## VT-XXIII
designator VT?
pins: 1, 2, 3

## VT-XXIV
designator VT?
pins: 1, 2, 3

## VT-XXIX
designator VT?
pins: 1, 2, 3, 4, 5, 6

## VT-XXV
designator VT?
pins: 1, 2, 3, 4

## VT-XXVI
designator VT?
pins: 1, 2, 3

## VT-XXVII
designator VT?
pins: 1, 2, 3

## VT-XXVIII
designator VT?
pins: 1, 2, 3

## VT-XXX
designator VT?
pins: 1, 2, 3, 4

## VT-XXXI
designator VT?
pins: 1, 2, 3, 4

## VT-XXXII
designator VT?
pins: 1, 2

## VT-XXXIII
designator VT?
pins: 1, 2

## W-I
designator W?
pins: 1

## W-II
designator W?
pins: 1, 2

## W-III
designator W?
pins: 1, 2

## W-IV
designator W?
pins: 1, 2

## W-IX
designator W?
pins: 1, 2

## W-V
designator W?
pins: 1, 2

## W-VI
designator W?
pins: 1, 2

## W-VII
designator W?
pins: 1, 2

## W-VIII
designator W?
pins: 1, 2

## W-X
designator W?
pins: 1, 2

## W-XI
designator W?
pins: 1, 2

## W-XII
designator W?
pins: 1, 2

## W-XIII
designator W?
pins: 1

## W-XIV
designator W?
pins: 1, 2

## W-XIV-A
designator W?
pins: 1, 2

## W-XIX
designator W?
pins: 1, 2

## W-XV
designator W?
pins: 1, 2

## W-XVI
designator W?
pins: 1, 2

## W-XVII
designator W?
pins: 1, 2

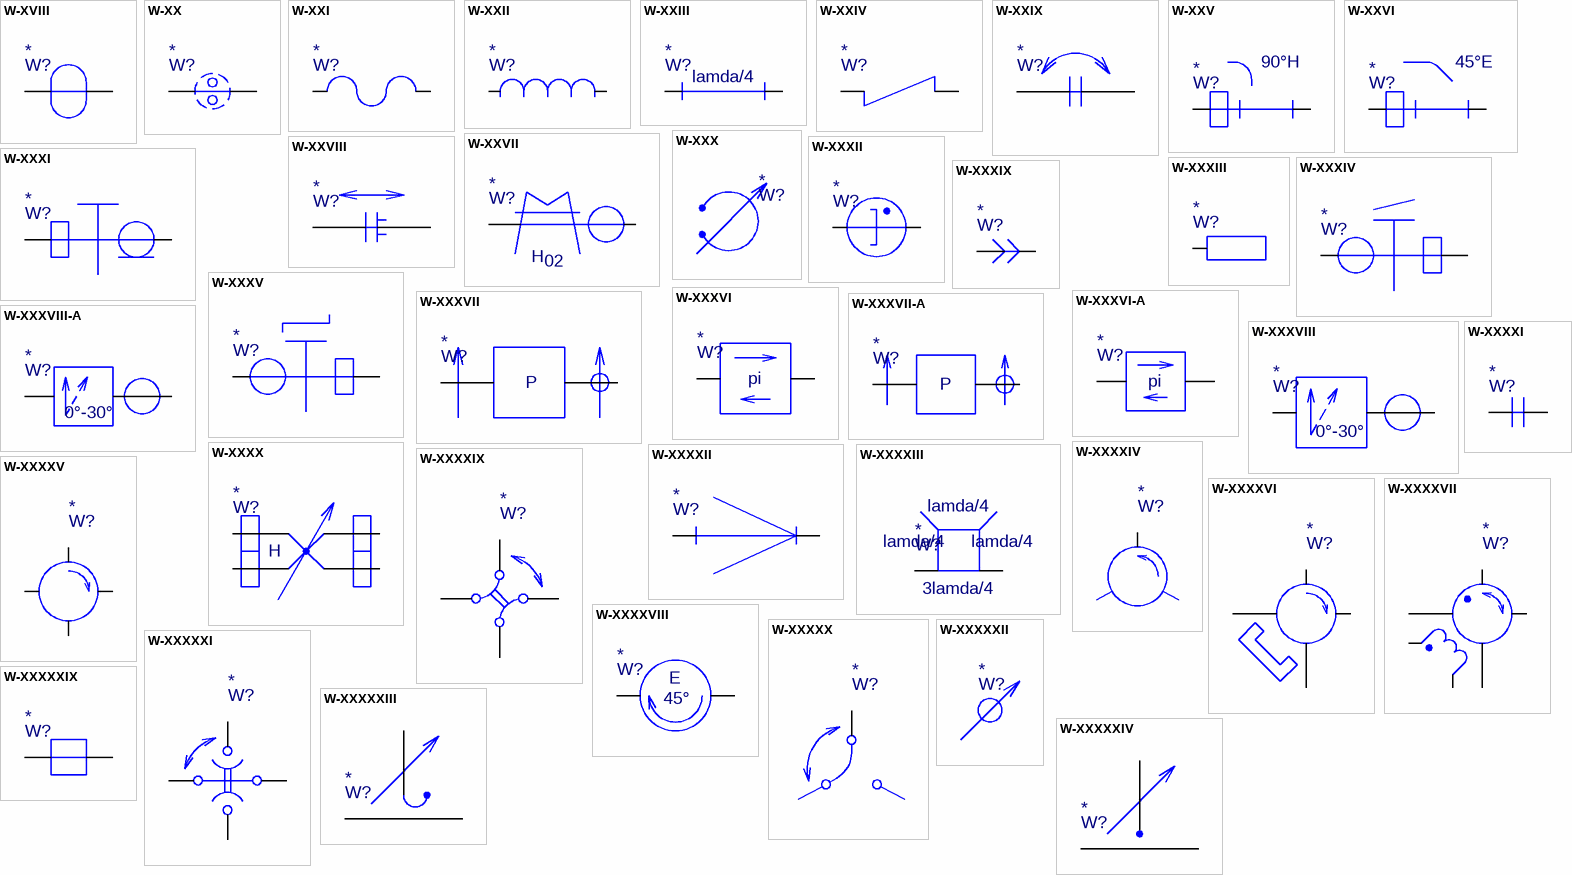
[diagram p13: symbols W-XVIII to W-XXXXXIX]

## W-XVIII
designator W?
pins: 1, 2

## W-XX
designator W?
pins: 1, 2

## W-XXI
designator W?
pins: 1, 2

## W-XXII
designator W?
pins: 1, 2

## W-XXIII
designator W?
pins: 1, 2
text: lamda/4

## W-XXIV
designator W?
pins: 1, 2

## W-XXIX
designator W?
pins: 1, 2

## W-XXV
designator W?
pins: 1, 2
text: 90°H

## W-XXVI
designator W?
pins: 1, 2
text: 45°E

## W-XXVII
designator W?
pins: 1, 2
text: H; 02

## W-XXVIII
designator W?
pins: 1, 2

## W-XXX
designator W?
pins: 1

## W-XXXI
designator W?
pins: 1, 2

## W-XXXII
designator W?
pins: 1, 2

## W-XXXIII
designator W?
pins: 1

## W-XXXIV
designator W?
pins: 1, 2

## W-XXXIX
designator W?
pins: 1, 2

## W-XXXV
designator W?
pins: 1, 2

## W-XXXVI
designator W?
pins: 1, 2
text: pi

## W-XXXVI-A
designator W?
pins: 1, 2
text: pi

## W-XXXVII
designator W?
pins: 1, 2
text: P

## W-XXXVII-A
designator W?
pins: 1, 2
text: P

## W-XXXVIII
designator W?
pins: 1, 2
text: 0°-30°

## W-XXXVIII-A
designator W?
pins: 1, 2
text: 0°-30°

## W-XXXX
designator W?
pins: 1, 2, 3, 4
text: H

## W-XXXXI
designator W?
pins: 1, 2

## W-XXXXII
designator W?
pins: 1, 2

## W-XXXXIII
designator W?
pins: 1, 2, 3, 4
text: lamda/4; 3lamda/4

## W-XXXXIV
designator W?
pins: 1, 2, 3

## W-XXXXIX
designator W?
pins: 1, 2, 3, 4

## W-XXXXV
designator W?
pins: 1, 2, 3, 4

## W-XXXXVI
designator W?
pins: 1, 2, 3, 4

## W-XXXXVII
designator W?
pins: 1, 2, 3, 4, 5, 6

## W-XXXXVIII
designator W?
pins: 1, 2
text: E; 45°

## W-XXXXX
designator W?
pins: 1, 2, 3

## W-XXXXXI
designator W?
pins: 1, 2, 3, 4

## W-XXXXXII
designator W?
pins: 1

## W-XXXXXIII
designator W?
pins: 1, 2, 3

## W-XXXXXIV
designator W?
pins: 1, 2, 3

## W-XXXXXIX
designator W?
pins: 1, 2

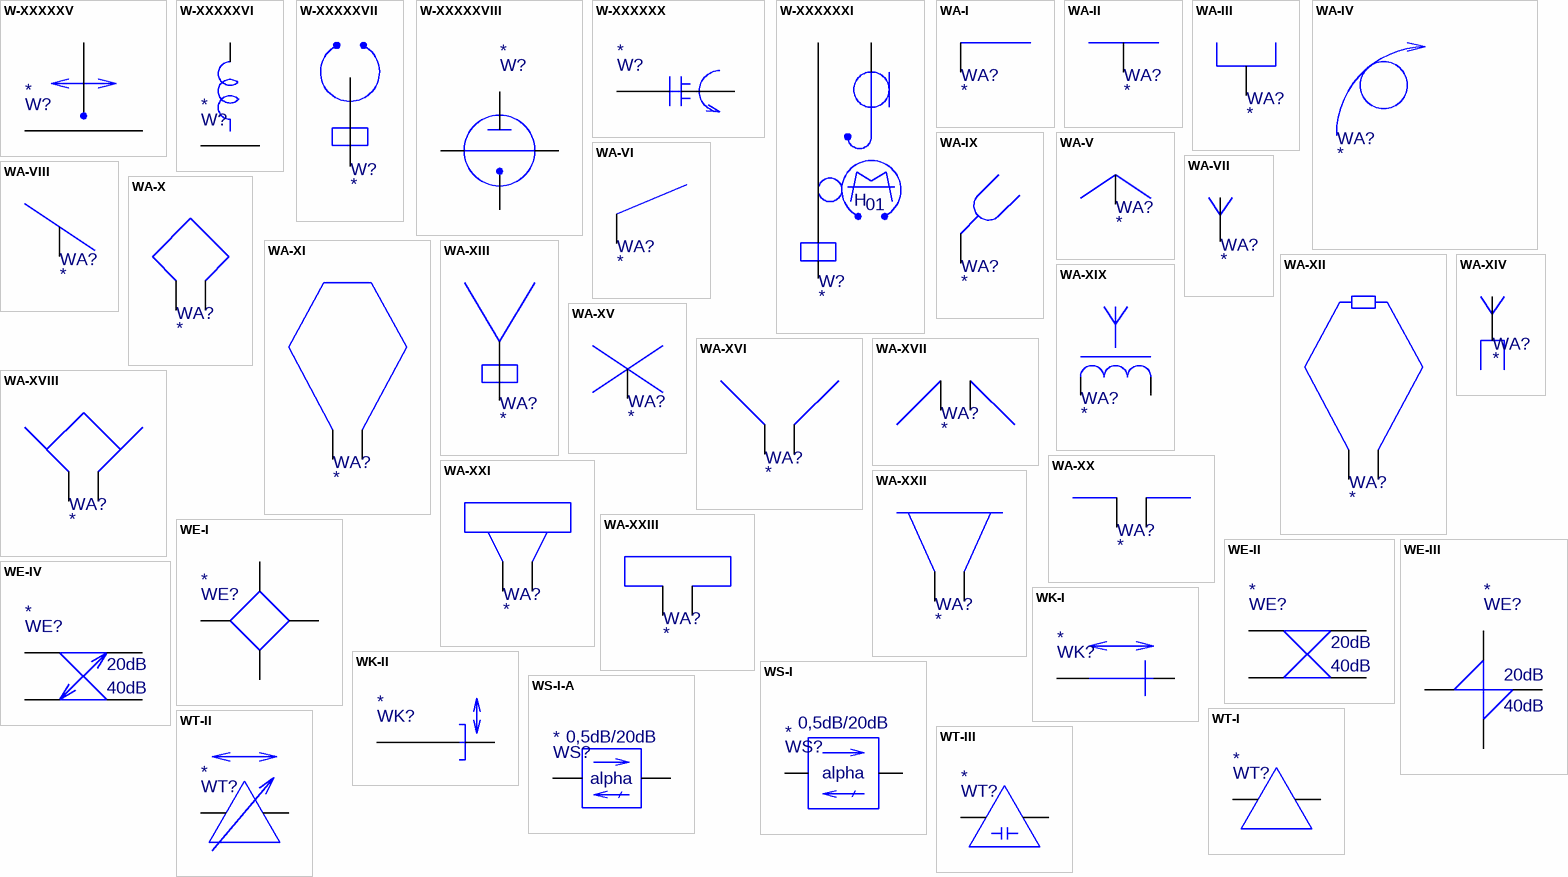
[diagram p14: symbols W-XXXXXV to WT-III]

## W-XXXXXV
designator W?
pins: 1, 2, 3

## W-XXXXXVI
designator W?
pins: 1, 2, 3

## W-XXXXXVII
designator W?
pins: 1

## W-XXXXXVIII
designator W?
pins: 1, 2, 3, 4

## W-XXXXXX
designator W?
pins: 1, 2

## W-XXXXXXI
designator W?
pins: 1, 2, 3
text: H; 01

## WA-I
designator WA?
pins: 1

## WA-II
designator WA?
pins: 1

## WA-III
designator WA?
pins: 1

## WA-IV
designator WA?
pins: 1

## WA-IX
designator WA?
pins: 1

## WA-V
designator WA?
pins: 1

## WA-VI
designator WA?
pins: 1

## WA-VII
designator WA?
pins: 1

## WA-VIII
designator WA?
pins: 1

## WA-X
designator WA?
pins: 1, 2

## WA-XI
designator WA?
pins: 1, 2

## WA-XII
designator WA?
pins: 1, 2

## WA-XIII
designator WA?
pins: 1

## WA-XIV
designator WA?
pins: 1

## WA-XIX
designator WA?
pins: 1, 2

## WA-XV
designator WA?
pins: 1

## WA-XVI
designator WA?
pins: 1, 2

## WA-XVII
designator WA?
pins: 1, 2

## WA-XVIII
designator WA?
pins: 1, 2

## WA-XX
designator WA?
pins: 1, 2

## WA-XXI
designator WA?
pins: 1, 2

## WA-XXII
designator WA?
pins: 1, 2

## WA-XXIII
designator WA?
pins: 1, 2

## WE-I
designator WE?
pins: 1, 2, 3, 4

## WE-II
designator WE?
pins: 1, 2, 3, 4
text: 20dB; 40dB

## WE-III
designator WE?
pins: 1, 2, 3, 4
text: 20dB; 40dB

## WE-IV
designator WE?
pins: 1, 2, 3, 4
text: 20dB; 40dB

## WK-I
designator WK?
pins: 1, 2

## WK-II
designator WK?
pins: 1, 2

## WS-I
designator WS?
pins: 1, 2
text: 0,5dB/20dB; alpha

## WS-I-A
designator WS?
pins: 1, 2
text: 0,5dB/20dB; alpha

## WT-I
designator WT?
pins: 1, 2

## WT-II
designator WT?
pins: 1, 2

## WT-III
designator WT?
pins: 1, 2

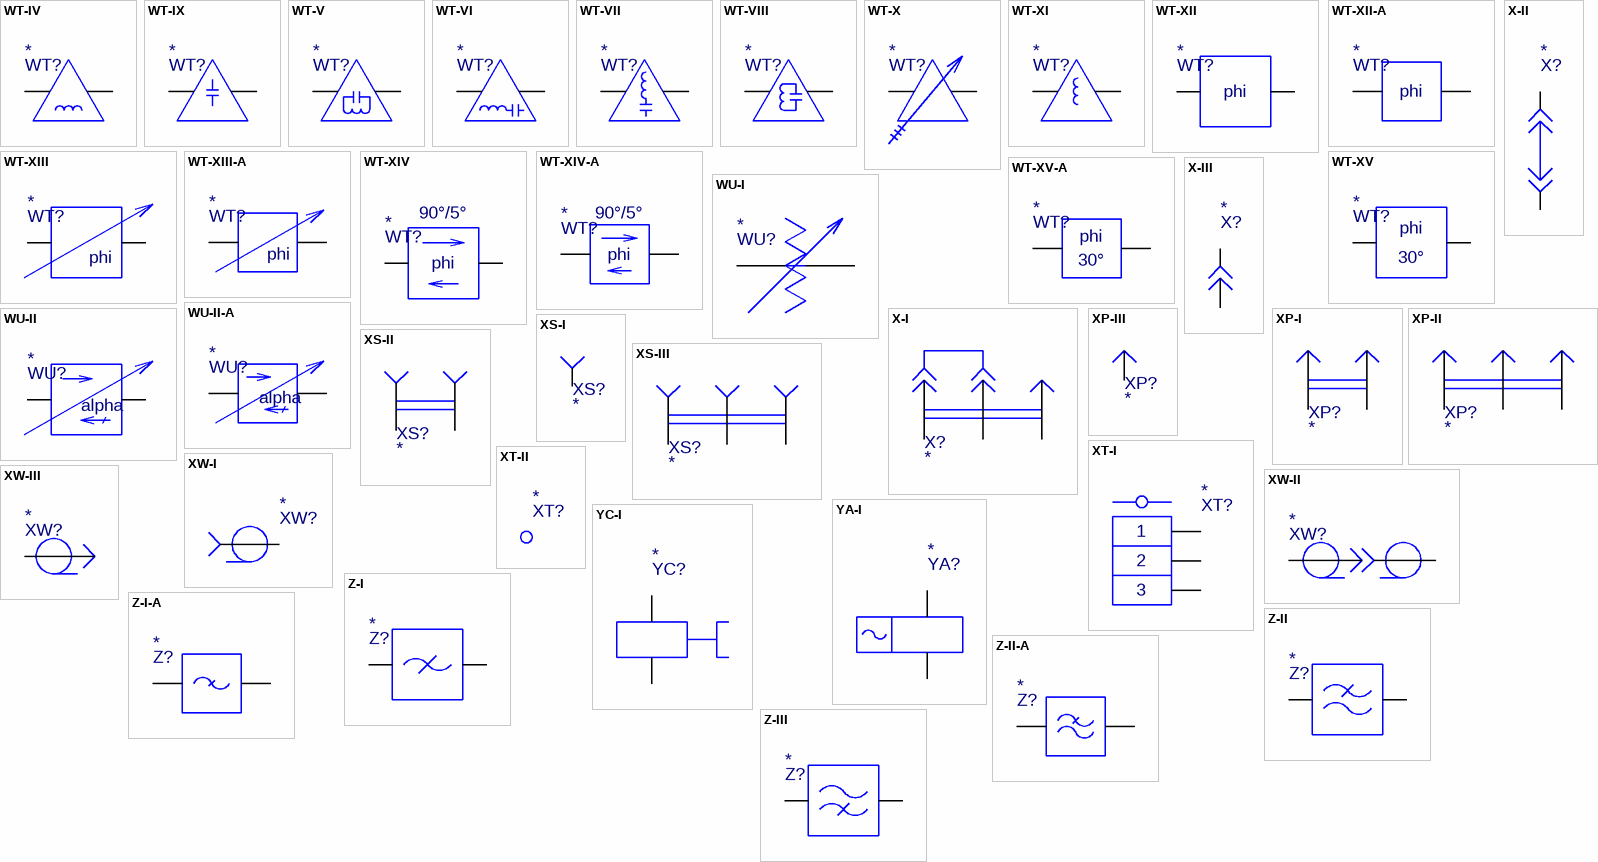
[diagram p15: symbols WT-IV to Z-III]

## WT-IV
designator WT?
pins: 1, 2

## WT-IX
designator WT?
pins: 1, 2

## WT-V
designator WT?
pins: 1, 2

## WT-VI
designator WT?
pins: 1, 2

## WT-VII
designator WT?
pins: 1, 2

## WT-VIII
designator WT?
pins: 1, 2

## WT-X
designator WT?
pins: 1, 2

## WT-XI
designator WT?
pins: 1, 2

## WT-XII
designator WT?
pins: 1, 2
text: phi

## WT-XII-A
designator WT?
pins: 1, 2
text: phi

## WT-XIII
designator WT?
pins: 1, 2
text: phi

## WT-XIII-A
designator WT?
pins: 1, 2
text: phi

## WT-XIV
designator WT?
pins: 1, 2
text: 90°/5°; phi

## WT-XIV-A
designator WT?
pins: 1, 2
text: 90°/5°; phi

## WT-XV
designator WT?
pins: 1, 2
text: phi; 30°

## WT-XV-A
designator WT?
pins: 1, 2
text: phi; 30°

## WU-I
designator WU?
pins: 1, 2

## WU-II
designator WU?
pins: 1, 2
text: alpha

## WU-II-A
designator WU?
pins: 1, 2
text: alpha

## X-I
designator X?
pins: 1, 2, 3

## X-II
designator X?
pins: 1, 2

## X-III
designator X?
pins: 1, 2

## XP-I
designator XP?
pins: 1, 2

## XP-II
designator XP?
pins: 1, 2, 3

## XP-III
designator XP?
pins: 1

## XS-I
designator XS?
pins: 1

## XS-II
designator XS?
pins: 1, 2

## XS-III
designator XS?
pins: 1, 2, 3

## XT-I
designator XT?
pins: 1, 2, 3

## XT-II
designator XT?
pins: 1

## XW-I
designator XW?
pins: 1

## XW-II
designator XW?
pins: 1, 2

## XW-III
designator XW?
pins: 1

## YA-I
designator YA?
pins: 1, 2

## YC-I
designator YC?
pins: 1, 2

## Z-I
designator Z?
pins: 1, 2

## Z-I-A
designator Z?
pins: 1, 2

## Z-II
designator Z?
pins: 1, 2

## Z-II-A
designator Z?
pins: 1, 2

## Z-III
designator Z?
pins: 1, 2

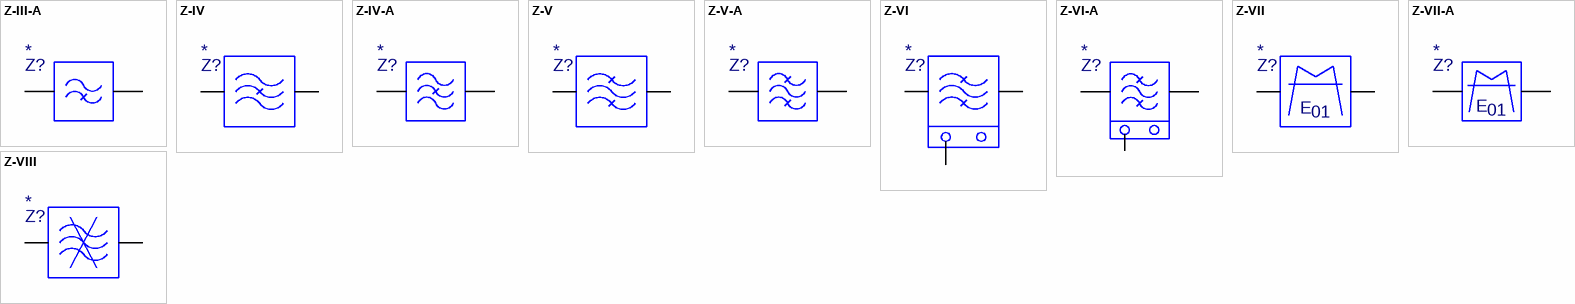
[diagram p16: symbols Z-III-A to Z-VIII]

## Z-III-A
designator Z?
pins: 1, 2

## Z-IV
designator Z?
pins: 1, 2

## Z-IV-A
designator Z?
pins: 1, 2

## Z-V
designator Z?
pins: 1, 2

## Z-V-A
designator Z?
pins: 1, 2

## Z-VI
designator Z?
pins: 1, 2, 3

## Z-VI-A
designator Z?
pins: 1, 2, 3

## Z-VII
designator Z?
pins: 1, 2
text: E; 01

## Z-VII-A
designator Z?
pins: 1, 2
text: E; 01

## Z-VIII
designator Z?
pins: 1, 2